# Altium integrated library Xilinx Spartan-6L.IntLib: 84 symbols (part 1 of 21)
Pins are listed as number, name and electrical type; pins without a type are passive.

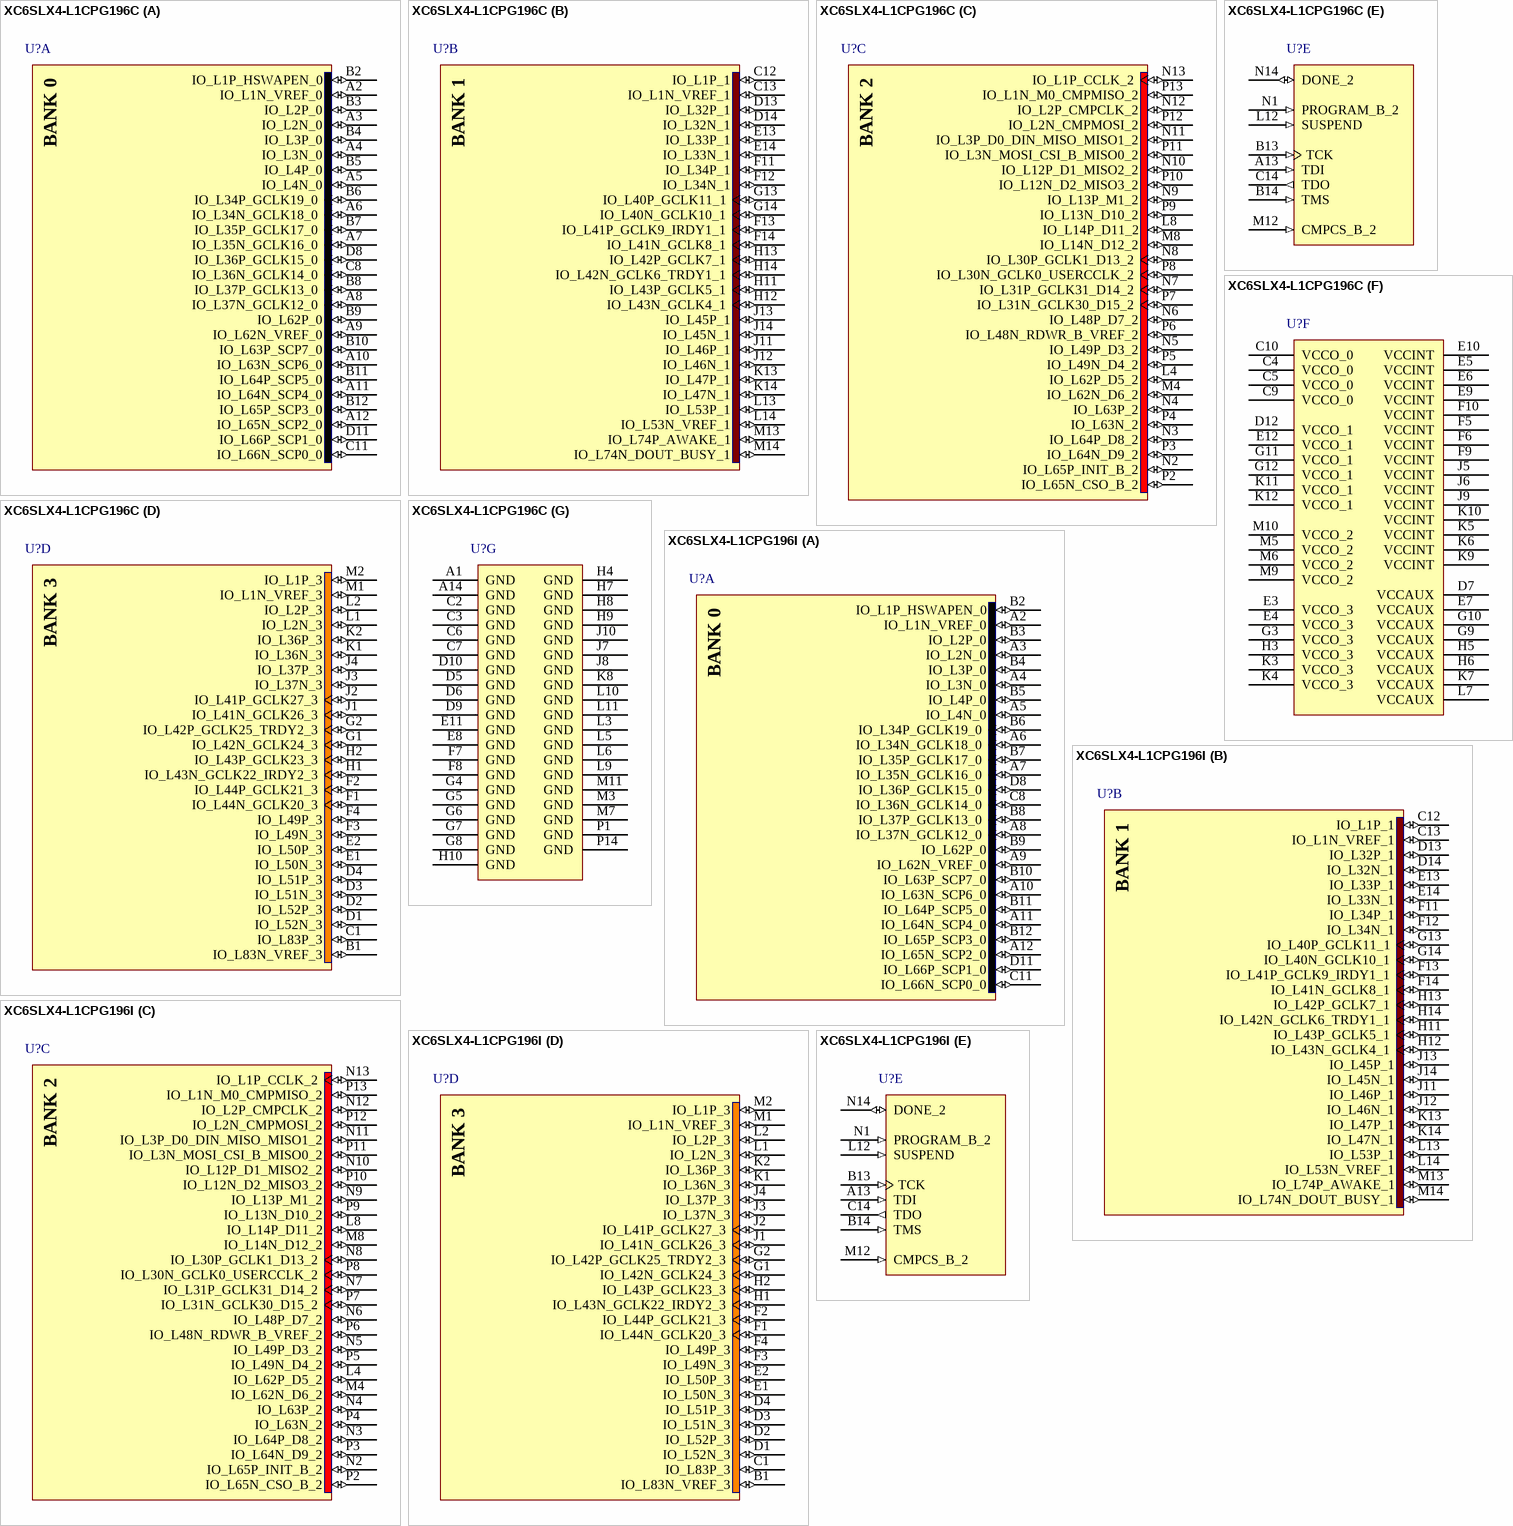
[diagram p0: symbols XC6SLX4-L1CPG196C to XC6SLX4-L1CPG196I]

## XC6SLX4-L1CPG196C
designator U?
Spartan-6 LX 1.0V FPGA, 106 User I/Os, 196-Ball Chip-Scale BGA (0.5mm Pitch), Low Power Version, Commercial Grade, Pb-Free; Published: 1-Jul-2010; DatasheetVersion: ver1.6, Nov-2010; PackageVersion: ver1.0, Dec-2009; PackageReference: CPG196; Publisher: Altium Limited; PackageDescription: 196-Ball Chip Scale Ball Grid Array 0.5 mm Pitch (CPG196) - Pb-Free; Code_JEDEC: MO-275; ComponentLink1Description: Manufacturer Link; ComponentLink1URL: http://www.xilinx.com; ComponentLink2Description: Spartan-6 Datasheet; ComponentLink2URL: http://www.xilinx.com/support/documentation/data_sheets/ds160.pdf; ComponentLink3Description: Spartan-6 Documents; ComponentLink3URL: http://www.xilinx.com/support/documentation/spartan-6.htm; ComponentLink4Description: Xilinx.com Home; ComponentLink4URL: http://www.xilinx.com
footprint CPG196 (BGA, 196-Leads, Body 8x8mm, Pitch 0.5mm)
signal-integrity model XC6SLX4_CPG196 (Spartan-6)
part A pins: A2 IO_L1N_VREF_0 (io), A3 IO_L2N_0 (io), A4 IO_L3N_0 (io), A5 IO_L4N_0 (io), A6 IO_L34N_GCLK18_0 (io), A7 IO_L35N_GCLK16_0 (io), A8 IO_L37N_GCLK12_0 (io), A9 IO_L62N_VREF_0 (io), A10 IO_L63N_SCP6_0 (io), A11 IO_L64N_SCP4_0 (io), A12 IO_L65N_SCP2_0 (io), B2 IO_L1P_HSWAPEN_0 (io), B3 IO_L2P_0 (io), B4 IO_L3P_0 (io), B5 IO_L4P_0 (io), B6 IO_L34P_GCLK19_0 (io), B7 IO_L35P_GCLK17_0 (io), B8 IO_L37P_GCLK13_0 (io), B9 IO_L62P_0 (io), B10 IO_L63P_SCP7_0 (io), B11 IO_L64P_SCP5_0 (io), B12 IO_L65P_SCP3_0 (io), C8 IO_L36N_GCLK14_0 (io), C11 IO_L66N_SCP0_0 (io), D8 IO_L36P_GCLK15_0 (io), D11 IO_L66P_SCP1_0 (io)
part B pins: C12 IO_L1P_1 (io), C13 IO_L1N_VREF_1 (io), D13 IO_L32P_1 (io), D14 IO_L32N_1 (io), E13 IO_L33P_1 (io), E14 IO_L33N_1 (io), F11 IO_L34P_1 (io), F12 IO_L34N_1 (io), F13 IO_L41P_GCLK9_IRDY1_1 (io), F14 IO_L41N_GCLK8_1 (io), G13 IO_L40P_GCLK11_1 (io), G14 IO_L40N_GCLK10_1 (io), H11 IO_L43P_GCLK5_1 (io), H12 IO_L43N_GCLK4_1 (io), H13 IO_L42P_GCLK7_1 (io), H14 IO_L42N_GCLK6_TRDY1_1 (io), J11 IO_L46P_1 (io), J12 IO_L46N_1 (io), J13 IO_L45P_1 (io), J14 IO_L45N_1 (io), K13 IO_L47P_1 (io), K14 IO_L47N_1 (io), L13 IO_L53P_1 (io), L14 IO_L53N_VREF_1 (io), M13 IO_L74P_AWAKE_1 (io), M14 IO_L74N_DOUT_BUSY_1 (io)
part C pins: L4 IO_L62P_D5_2 (io), L8 IO_L14P_D11_2 (io), M4 IO_L62N_D6_2 (io), M8 IO_L14N_D12_2 (io), N2 IO_L65P_INIT_B_2 (io), N3 IO_L64P_D8_2 (io), N4 IO_L63P_2 (io), N5 IO_L49P_D3_2 (io), N6 IO_L48P_D7_2 (io), N7 IO_L31P_GCLK31_D14_2 (io), N8 IO_L30P_GCLK1_D13_2 (io), N9 IO_L13P_M1_2 (io), N10 IO_L12P_D1_MISO2_2 (io), N11 IO_L3P_D0_DIN_MISO_MISO1_2 (io), N12 IO_L2P_CMPCLK_2 (io), N13 IO_L1P_CCLK_2 (io), P2 IO_L65N_CSO_B_2 (io), P3 IO_L64N_D9_2 (io), P4 IO_L63N_2 (io), P5 IO_L49N_D4_2 (io), P6 IO_L48N_RDWR_B_VREF_2 (io), P7 IO_L31N_GCLK30_D15_2 (io), P8 IO_L30N_GCLK0_USERCCLK_2 (io), P9 IO_L13N_D10_2 (io), P10 IO_L12N_D2_MISO3_2 (io), P11 IO_L3N_MOSI_CSI_B_MISO0_2 (io), P12 IO_L2N_CMPMOSI_2 (io), P13 IO_L1N_M0_CMPMISO_2 (io)
part D pins: B1 IO_L83N_VREF_3 (io), C1 IO_L83P_3 (io), D1 IO_L52N_3 (io), D2 IO_L52P_3 (io), D3 IO_L51N_3 (io), D4 IO_L51P_3 (io), E1 IO_L50N_3 (io), E2 IO_L50P_3 (io), F1 IO_L44N_GCLK20_3 (io), F2 IO_L44P_GCLK21_3 (io), F3 IO_L49N_3 (io), F4 IO_L49P_3 (io), G1 IO_L42N_GCLK24_3 (io), G2 IO_L42P_GCLK25_TRDY2_3 (io), H1 IO_L43N_GCLK22_IRDY2_3 (io), H2 IO_L43P_GCLK23_3 (io), J1 IO_L41N_GCLK26_3 (io), J2 IO_L41P_GCLK27_3 (io), J3 IO_L37N_3 (io), J4 IO_L37P_3 (io), K1 IO_L36N_3 (io), K2 IO_L36P_3 (io), L1 IO_L2N_3 (io), L2 IO_L2P_3 (io), M1 IO_L1N_VREF_3 (io), M2 IO_L1P_3 (io)
part E pins: A13 TDI (in), B13 TCK (in), B14 TMS (in), C14 TDO (out), L12 SUSPEND (in), M12 CMPCS_B_2 (in), N1 PROGRAM_B_2 (in), N14 DONE_2 (io)
part F pins: C4 VCCO_0 (power), C5 VCCO_0 (power), C9 VCCO_0 (power), C10 VCCO_0 (power), D7 VCCAUX (power), D12 VCCO_1 (power), E3 VCCO_3 (power), E4 VCCO_3 (power), E5 VCCINT (power), E6 VCCINT (power), E7 VCCAUX (power), E9 VCCINT (power), E10 VCCINT (power), E12 VCCO_1 (power), F5 VCCINT (power), F6 VCCINT (power), F9 VCCINT (power), F10 VCCINT (power), G3 VCCO_3 (power), G9 VCCAUX (power), G10 VCCAUX (power), G11 VCCO_1 (power), G12 VCCO_1 (power), H3 VCCO_3 (power), H5 VCCAUX (power), H6 VCCAUX (power), J5 VCCINT (power), J6 VCCINT (power), J9 VCCINT (power), K3 VCCO_3 (power), K4 VCCO_3 (power), K5 VCCINT (power), K6 VCCINT (power), K7 VCCAUX (power), K9 VCCINT (power), K10 VCCINT (power), K11 VCCO_1 (power), K12 VCCO_1 (power), L7 VCCAUX (power), M5 VCCO_2 (power), M6 VCCO_2 (power), M9 VCCO_2 (power), M10 VCCO_2 (power)
part G pins: A1 GND (power), A14 GND (power), C2 GND (power), C3 GND (power), C6 GND (power), C7 GND (power), D5 GND (power), D6 GND (power), D9 GND (power), D10 GND (power), E8 GND (power), E11 GND (power), F7 GND (power), F8 GND (power), G4 GND (power), G5 GND (power), G6 GND (power), G7 GND (power), G8 GND (power), H4 GND (power), H7 GND (power), H8 GND (power), H9 GND (power), H10 GND (power), J7 GND (power), J8 GND (power), J10 GND (power), K8 GND (power), L3 GND (power), L5 GND (power), L6 GND (power), L9 GND (power), L10 GND (power), L11 GND (power), M3 GND (power), M7 GND (power), M11 GND (power), P1 GND (power), P14 GND (power)
part A text: BANK 0
part B text: BANK 1
part C text: BANK 2
part D text: BANK 3

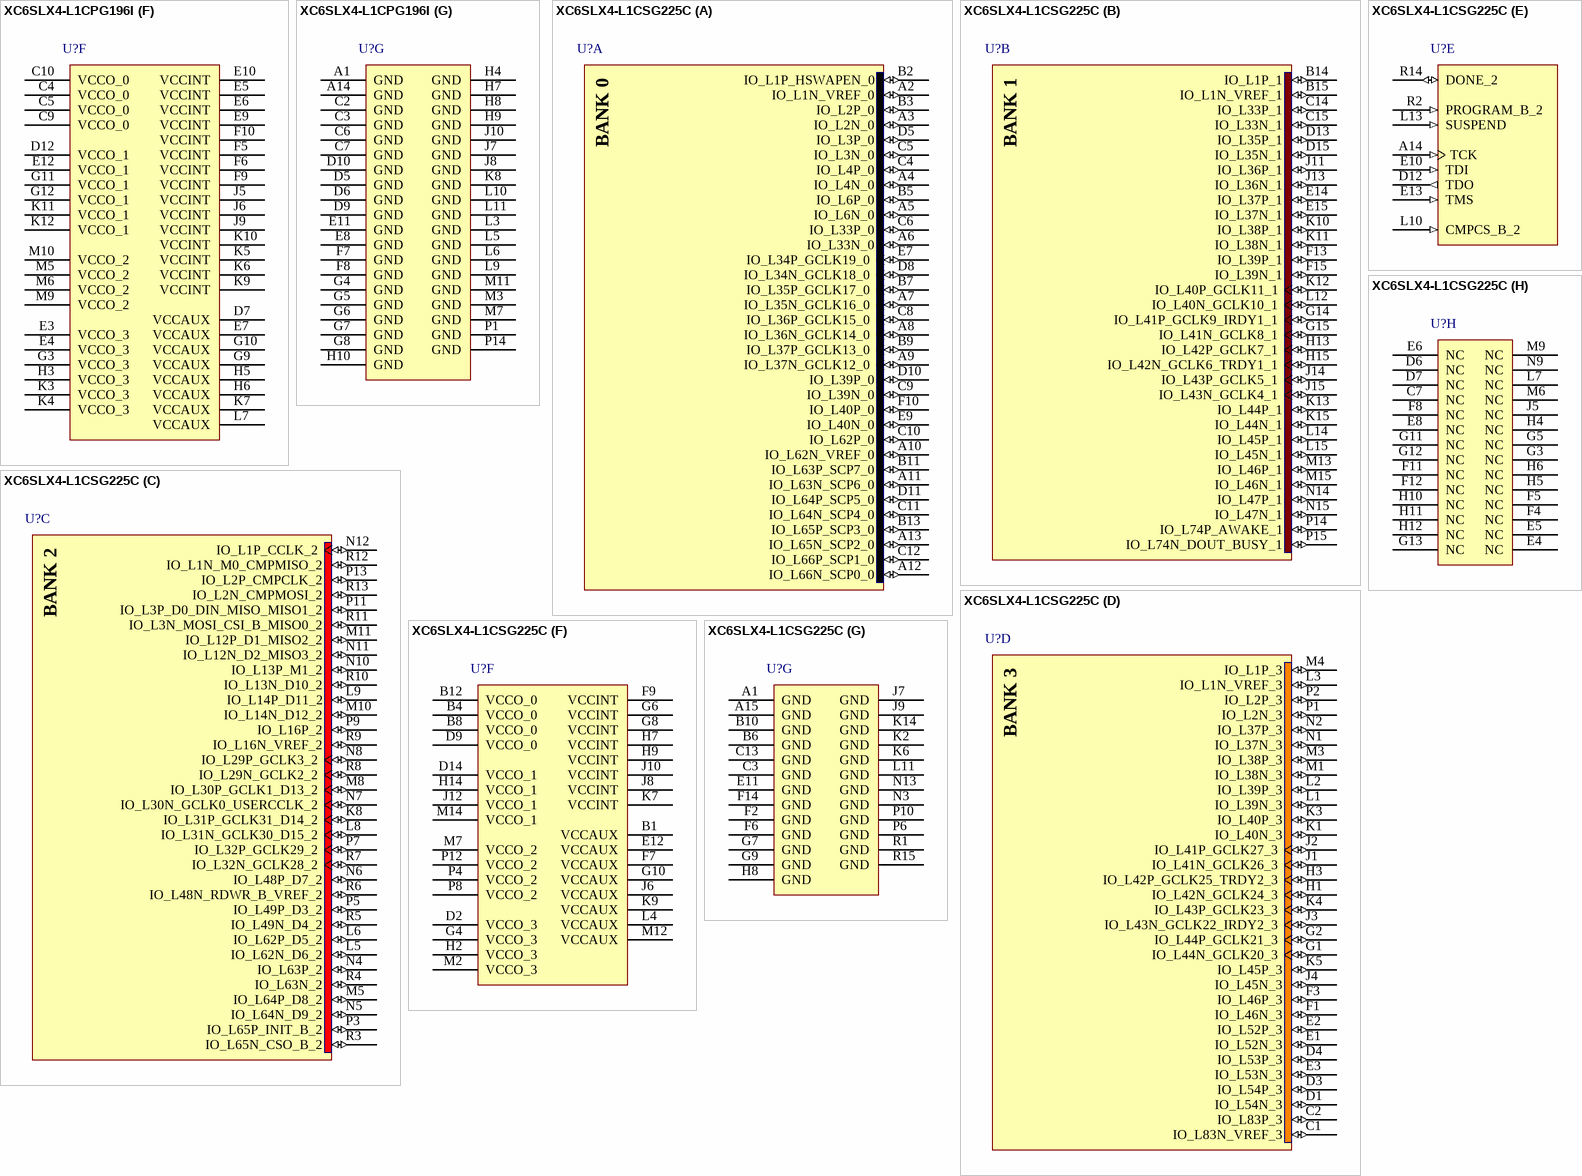
[diagram p1: symbols XC6SLX4-L1CPG196I to XC6SLX4-L1CSG225C]

## XC6SLX4-L1CPG196I
designator U?
Spartan-6 LX 1.0V FPGA, 106 User I/Os, 196-Ball Chip-Scale BGA (0.5mm Pitch), Low Power Version, Industrial Grade, Pb-Free; Published: 1-Jul-2010; DatasheetVersion: ver1.6, Nov-2010; PackageVersion: ver1.0, Dec-2009; PackageReference: CPG196; Publisher: Altium Limited; PackageDescription: 196-Ball Chip Scale Ball Grid Array 0.5 mm Pitch (CPG196) - Pb-Free; Code_JEDEC: MO-275; ComponentLink1Description: Manufacturer Link; ComponentLink1URL: http://www.xilinx.com; ComponentLink2Description: Spartan-6 Datasheet; ComponentLink2URL: http://www.xilinx.com/support/documentation/data_sheets/ds160.pdf; ComponentLink3Description: Spartan-6 Documents; ComponentLink3URL: http://www.xilinx.com/support/documentation/spartan-6.htm; ComponentLink4Description: Xilinx.com Home; ComponentLink4URL: http://www.xilinx.com
footprint CPG196 (BGA, 196-Leads, Body 8x8mm, Pitch 0.5mm)
signal-integrity model XC6SLX4_CPG196 (Spartan-6)
part A pins: A2 IO_L1N_VREF_0 (io), A3 IO_L2N_0 (io), A4 IO_L3N_0 (io), A5 IO_L4N_0 (io), A6 IO_L34N_GCLK18_0 (io), A7 IO_L35N_GCLK16_0 (io), A8 IO_L37N_GCLK12_0 (io), A9 IO_L62N_VREF_0 (io), A10 IO_L63N_SCP6_0 (io), A11 IO_L64N_SCP4_0 (io), A12 IO_L65N_SCP2_0 (io), B2 IO_L1P_HSWAPEN_0 (io), B3 IO_L2P_0 (io), B4 IO_L3P_0 (io), B5 IO_L4P_0 (io), B6 IO_L34P_GCLK19_0 (io), B7 IO_L35P_GCLK17_0 (io), B8 IO_L37P_GCLK13_0 (io), B9 IO_L62P_0 (io), B10 IO_L63P_SCP7_0 (io), B11 IO_L64P_SCP5_0 (io), B12 IO_L65P_SCP3_0 (io), C8 IO_L36N_GCLK14_0 (io), C11 IO_L66N_SCP0_0 (io), D8 IO_L36P_GCLK15_0 (io), D11 IO_L66P_SCP1_0 (io)
part B pins: C12 IO_L1P_1 (io), C13 IO_L1N_VREF_1 (io), D13 IO_L32P_1 (io), D14 IO_L32N_1 (io), E13 IO_L33P_1 (io), E14 IO_L33N_1 (io), F11 IO_L34P_1 (io), F12 IO_L34N_1 (io), F13 IO_L41P_GCLK9_IRDY1_1 (io), F14 IO_L41N_GCLK8_1 (io), G13 IO_L40P_GCLK11_1 (io), G14 IO_L40N_GCLK10_1 (io), H11 IO_L43P_GCLK5_1 (io), H12 IO_L43N_GCLK4_1 (io), H13 IO_L42P_GCLK7_1 (io), H14 IO_L42N_GCLK6_TRDY1_1 (io), J11 IO_L46P_1 (io), J12 IO_L46N_1 (io), J13 IO_L45P_1 (io), J14 IO_L45N_1 (io), K13 IO_L47P_1 (io), K14 IO_L47N_1 (io), L13 IO_L53P_1 (io), L14 IO_L53N_VREF_1 (io), M13 IO_L74P_AWAKE_1 (io), M14 IO_L74N_DOUT_BUSY_1 (io)
part C pins: L4 IO_L62P_D5_2 (io), L8 IO_L14P_D11_2 (io), M4 IO_L62N_D6_2 (io), M8 IO_L14N_D12_2 (io), N2 IO_L65P_INIT_B_2 (io), N3 IO_L64P_D8_2 (io), N4 IO_L63P_2 (io), N5 IO_L49P_D3_2 (io), N6 IO_L48P_D7_2 (io), N7 IO_L31P_GCLK31_D14_2 (io), N8 IO_L30P_GCLK1_D13_2 (io), N9 IO_L13P_M1_2 (io), N10 IO_L12P_D1_MISO2_2 (io), N11 IO_L3P_D0_DIN_MISO_MISO1_2 (io), N12 IO_L2P_CMPCLK_2 (io), N13 IO_L1P_CCLK_2 (io), P2 IO_L65N_CSO_B_2 (io), P3 IO_L64N_D9_2 (io), P4 IO_L63N_2 (io), P5 IO_L49N_D4_2 (io), P6 IO_L48N_RDWR_B_VREF_2 (io), P7 IO_L31N_GCLK30_D15_2 (io), P8 IO_L30N_GCLK0_USERCCLK_2 (io), P9 IO_L13N_D10_2 (io), P10 IO_L12N_D2_MISO3_2 (io), P11 IO_L3N_MOSI_CSI_B_MISO0_2 (io), P12 IO_L2N_CMPMOSI_2 (io), P13 IO_L1N_M0_CMPMISO_2 (io)
part D pins: B1 IO_L83N_VREF_3 (io), C1 IO_L83P_3 (io), D1 IO_L52N_3 (io), D2 IO_L52P_3 (io), D3 IO_L51N_3 (io), D4 IO_L51P_3 (io), E1 IO_L50N_3 (io), E2 IO_L50P_3 (io), F1 IO_L44N_GCLK20_3 (io), F2 IO_L44P_GCLK21_3 (io), F3 IO_L49N_3 (io), F4 IO_L49P_3 (io), G1 IO_L42N_GCLK24_3 (io), G2 IO_L42P_GCLK25_TRDY2_3 (io), H1 IO_L43N_GCLK22_IRDY2_3 (io), H2 IO_L43P_GCLK23_3 (io), J1 IO_L41N_GCLK26_3 (io), J2 IO_L41P_GCLK27_3 (io), J3 IO_L37N_3 (io), J4 IO_L37P_3 (io), K1 IO_L36N_3 (io), K2 IO_L36P_3 (io), L1 IO_L2N_3 (io), L2 IO_L2P_3 (io), M1 IO_L1N_VREF_3 (io), M2 IO_L1P_3 (io)
part E pins: A13 TDI (in), B13 TCK (in), B14 TMS (in), C14 TDO (out), L12 SUSPEND (in), M12 CMPCS_B_2 (in), N1 PROGRAM_B_2 (in), N14 DONE_2 (io)
part F pins: C4 VCCO_0 (power), C5 VCCO_0 (power), C9 VCCO_0 (power), C10 VCCO_0 (power), D7 VCCAUX (power), D12 VCCO_1 (power), E3 VCCO_3 (power), E4 VCCO_3 (power), E5 VCCINT (power), E6 VCCINT (power), E7 VCCAUX (power), E9 VCCINT (power), E10 VCCINT (power), E12 VCCO_1 (power), F5 VCCINT (power), F6 VCCINT (power), F9 VCCINT (power), F10 VCCINT (power), G3 VCCO_3 (power), G9 VCCAUX (power), G10 VCCAUX (power), G11 VCCO_1 (power), G12 VCCO_1 (power), H3 VCCO_3 (power), H5 VCCAUX (power), H6 VCCAUX (power), J5 VCCINT (power), J6 VCCINT (power), J9 VCCINT (power), K3 VCCO_3 (power), K4 VCCO_3 (power), K5 VCCINT (power), K6 VCCINT (power), K7 VCCAUX (power), K9 VCCINT (power), K10 VCCINT (power), K11 VCCO_1 (power), K12 VCCO_1 (power), L7 VCCAUX (power), M5 VCCO_2 (power), M6 VCCO_2 (power), M9 VCCO_2 (power), M10 VCCO_2 (power)
part G pins: A1 GND (power), A14 GND (power), C2 GND (power), C3 GND (power), C6 GND (power), C7 GND (power), D5 GND (power), D6 GND (power), D9 GND (power), D10 GND (power), E8 GND (power), E11 GND (power), F7 GND (power), F8 GND (power), G4 GND (power), G5 GND (power), G6 GND (power), G7 GND (power), G8 GND (power), H4 GND (power), H7 GND (power), H8 GND (power), H9 GND (power), H10 GND (power), J7 GND (power), J8 GND (power), J10 GND (power), K8 GND (power), L3 GND (power), L5 GND (power), L6 GND (power), L9 GND (power), L10 GND (power), L11 GND (power), M3 GND (power), M7 GND (power), M11 GND (power), P1 GND (power), P14 GND (power)
part A text: BANK 0
part B text: BANK 1
part C text: BANK 2
part D text: BANK 3

## XC6SLX4-L1CSG225C
designator U?
Spartan-6 LX 1.0V FPGA, 132 User I/Os, 225-Ball Chip-Scale BGA (0.8mm Pitch), Low Power Version, Commercial Grade, Pb-Free; Published: 1-Jul-2010; DatasheetVersion: ver1.6, Nov-2010; PackageVersion: ver1.1, Nov-2009; PackageReference: CSG225; Publisher: Altium Limited; PackageDescription: 225-Ball Chip-Scale BGA (CSG225) Package, 0.8 mm Pitch; Code_JEDEC: MO-275-HHAC-1; ComponentLink1Description: Manufacturer Link; ComponentLink1URL: http://www.xilinx.com; ComponentLink2Description: Spartan-6 Datasheet; ComponentLink2URL: http://www.xilinx.com/support/documentation/data_sheets/ds160.pdf; ComponentLink3Description: Spartan-6 Documents; ComponentLink3URL: http://www.xilinx.com/support/documentation/spartan-6.htm; ComponentLink4Description: Xilinx.com Home; ComponentLink4URL: http://www.xilinx.com
footprint CSG225 (BGA, 225-Leads, Body 13x13mm, Pitch 0.8mm)
signal-integrity model XC6SLX4_CSG225 (Spartan-6)
part A pins: A2 IO_L1N_VREF_0 (io), A3 IO_L2N_0 (io), A4 IO_L4N_0 (io), A5 IO_L6N_0 (io), A6 IO_L33N_0 (io), A7 IO_L35N_GCLK16_0 (io), A8 IO_L36N_GCLK14_0 (io), A9 IO_L37N_GCLK12_0 (io), A10 IO_L62N_VREF_0 (io), A11 IO_L63N_SCP6_0 (io), A12 IO_L66N_SCP0_0 (io), A13 IO_L65N_SCP2_0 (io), B2 IO_L1P_HSWAPEN_0 (io), B3 IO_L2P_0 (io), B5 IO_L6P_0 (io), B7 IO_L35P_GCLK17_0 (io), B9 IO_L37P_GCLK13_0 (io), B11 IO_L63P_SCP7_0 (io), B13 IO_L65P_SCP3_0 (io), C4 IO_L4P_0 (io), C5 IO_L3N_0 (io), C6 IO_L33P_0 (io), C8 IO_L36P_GCLK15_0 (io), C9 IO_L39N_0 (io), C10 IO_L62P_0 (io), C11 IO_L64N_SCP4_0 (io), C12 IO_L66P_SCP1_0 (io), D5 IO_L3P_0 (io), D8 IO_L34N_GCLK18_0 (io), D10 IO_L39P_0 (io), D11 IO_L64P_SCP5_0 (io), E7 IO_L34P_GCLK19_0 (io), E9 IO_L40N_0 (io), F10 IO_L40P_0 (io)
part B pins: B14 IO_L1P_1 (io), B15 IO_L1N_VREF_1 (io), C14 IO_L33P_1 (io), C15 IO_L33N_1 (io), D13 IO_L35P_1 (io), D15 IO_L35N_1 (io), E14 IO_L37P_1 (io), E15 IO_L37N_1 (io), F13 IO_L39P_1 (io), F15 IO_L39N_1 (io), G14 IO_L41P_GCLK9_IRDY1_1 (io), G15 IO_L41N_GCLK8_1 (io), H13 IO_L42P_GCLK7_1 (io), H15 IO_L42N_GCLK6_TRDY1_1 (io), J11 IO_L36P_1 (io), J13 IO_L36N_1 (io), J14 IO_L43P_GCLK5_1 (io), J15 IO_L43N_GCLK4_1 (io), K10 IO_L38P_1 (io), K11 IO_L38N_1 (io), K12 IO_L40P_GCLK11_1 (io), K13 IO_L44P_1 (io), K15 IO_L44N_1 (io), L12 IO_L40N_GCLK10_1 (io), L14 IO_L45P_1 (io), L15 IO_L45N_1 (io), M13 IO_L46P_1 (io), M15 IO_L46N_1 (io), N14 IO_L47P_1 (io), N15 IO_L47N_1 (io), P14 IO_L74P_AWAKE_1 (io), P15 IO_L74N_DOUT_BUSY_1 (io)
part C pins: K8 IO_L31P_GCLK31_D14_2 (io), L5 IO_L62N_D6_2 (io), L6 IO_L62P_D5_2 (io), L8 IO_L31N_GCLK30_D15_2 (io), L9 IO_L14P_D11_2 (io), M5 IO_L64P_D8_2 (io), M8 IO_L30P_GCLK1_D13_2 (io), M10 IO_L14N_D12_2 (io), M11 IO_L12P_D1_MISO2_2 (io), N4 IO_L63P_2 (io), N5 IO_L64N_D9_2 (io), N6 IO_L48P_D7_2 (io), N7 IO_L30N_GCLK0_USERCCLK_2 (io), N8 IO_L29P_GCLK3_2 (io), N10 IO_L13P_M1_2 (io), N11 IO_L12N_D2_MISO3_2 (io), N12 IO_L1P_CCLK_2 (io), P3 IO_L65P_INIT_B_2 (io), P5 IO_L49P_D3_2 (io), P7 IO_L32P_GCLK29_2 (io), P9 IO_L16P_2 (io), P11 IO_L3P_D0_DIN_MISO_MISO1_2 (io), P13 IO_L2P_CMPCLK_2 (io), R3 IO_L65N_CSO_B_2 (io), R4 IO_L63N_2 (io), R5 IO_L49N_D4_2 (io), R6 IO_L48N_RDWR_B_VREF_2 (io), R7 IO_L32N_GCLK28_2 (io), R8 IO_L29N_GCLK2_2 (io), R9 IO_L16N_VREF_2 (io), R10 IO_L13N_D10_2 (io), R11 IO_L3N_MOSI_CSI_B_MISO0_2 (io), R12 IO_L1N_M0_CMPMISO_2 (io), R13 IO_L2N_CMPMOSI_2 (io)
part D pins: C1 IO_L83N_VREF_3 (io), C2 IO_L83P_3 (io), D1 IO_L54N_3 (io), D3 IO_L54P_3 (io), D4 IO_L53P_3 (io), E1 IO_L52N_3 (io), E2 IO_L52P_3 (io), E3 IO_L53N_3 (io), F1 IO_L46N_3 (io), F3 IO_L46P_3 (io), G1 IO_L44N_GCLK20_3 (io), G2 IO_L44P_GCLK21_3 (io), H1 IO_L42N_GCLK24_3 (io), H3 IO_L42P_GCLK25_TRDY2_3 (io), J1 IO_L41N_GCLK26_3 (io), J2 IO_L41P_GCLK27_3 (io), J3 IO_L43N_GCLK22_IRDY2_3 (io), J4 IO_L45N_3 (io), K1 IO_L40N_3 (io), K3 IO_L40P_3 (io), K4 IO_L43P_GCLK23_3 (io), K5 IO_L45P_3 (io), L1 IO_L39N_3 (io), L2 IO_L39P_3 (io), L3 IO_L1N_VREF_3 (io), M1 IO_L38N_3 (io), M3 IO_L38P_3 (io), M4 IO_L1P_3 (io), N1 IO_L37N_3 (io), N2 IO_L37P_3 (io), P1 IO_L2N_3 (io), P2 IO_L2P_3 (io)
part E pins: A14 TCK (in), D12 TDO (out), E10 TDI (in), E13 TMS (in), L10 CMPCS_B_2 (in), L13 SUSPEND (in), R2 PROGRAM_B_2 (in), R14 DONE_2 (io)
part F pins: B1 VCCAUX (power), B4 VCCO_0 (power), B8 VCCO_0 (power), B12 VCCO_0 (power), D2 VCCO_3 (power), D9 VCCO_0 (power), D14 VCCO_1 (power), E12 VCCAUX (power), F7 VCCAUX (power), F9 VCCINT (power), G4 VCCO_3 (power), G6 VCCINT (power), G8 VCCINT (power), G10 VCCAUX (power), H2 VCCO_3 (power), H7 VCCINT (power), H9 VCCINT (power), H14 VCCO_1 (power), J6 VCCAUX (power), J8 VCCINT (power), J10 VCCINT (power), J12 VCCO_1 (power), K7 VCCINT (power), K9 VCCAUX (power), L4 VCCAUX (power), M2 VCCO_3 (power), M7 VCCO_2 (power), M12 VCCAUX (power), M14 VCCO_1 (power), P4 VCCO_2 (power), P8 VCCO_2 (power), P12 VCCO_2 (power)
part G pins: A1 GND (power), A15 GND (power), B6 GND (power), B10 GND (power), C3 GND (power), C13 GND (power), E11 GND (power), F2 GND (power), F6 GND (power), F14 GND (power), G7 GND (power), G9 GND (power), H8 GND (power), J7 GND (power), J9 GND (power), K2 GND (power), K6 GND (power), K14 GND (power), L11 GND (power), N3 GND (power), N13 GND (power), P6 GND (power), P10 GND (power), R1 GND (power), R15 GND (power)
part H pins: C7 NC, D6 NC, D7 NC, E4 NC, E5 NC, E6 NC, E8 NC, F4 NC, F5 NC, F8 NC, F11 NC, F12 NC, G3 NC, G5 NC, G11 NC, G12 NC, G13 NC, H4 NC, H5 NC, H6 NC, H10 NC, H11 NC, H12 NC, J5 NC, L7 NC, M6 NC, M9 NC, N9 NC
part A text: BANK 0
part B text: BANK 1
part C text: BANK 2
part D text: BANK 3

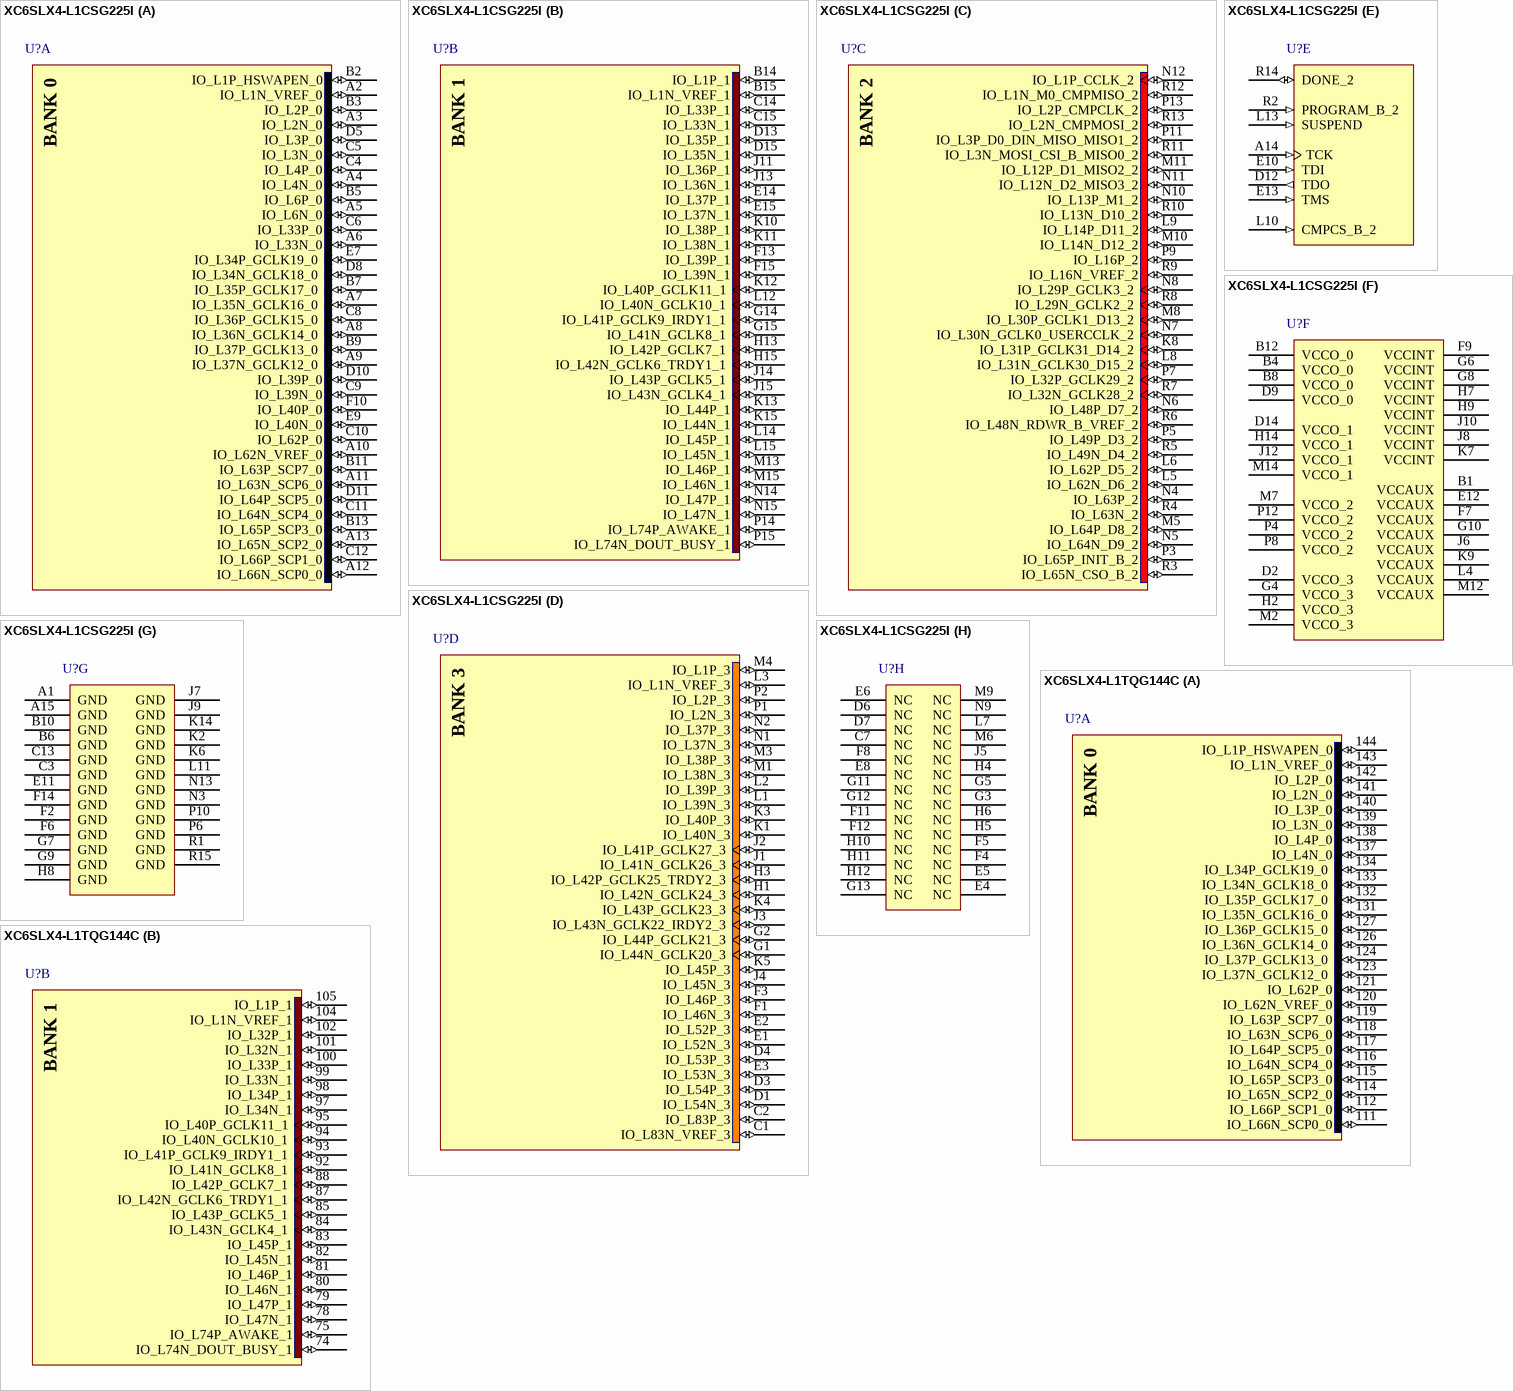
[diagram p2: symbols XC6SLX4-L1CSG225I to XC6SLX4-L1TQG144C]

## XC6SLX4-L1CSG225I
designator U?
Spartan-6 LX 1.0V FPGA, 132 User I/Os, 225-Ball Chip-Scale BGA (0.8mm Pitch), Low Power Version, Industrial Grade, Pb-Free; Published: 1-Jul-2010; DatasheetVersion: ver1.6, Nov-2010; PackageVersion: ver1.1, Nov-2009; PackageReference: CSG225; Publisher: Altium Limited; PackageDescription: 225-Ball Chip-Scale BGA (CSG225) Package, 0.8 mm Pitch; Code_JEDEC: MO-275-HHAC-1; ComponentLink1Description: Manufacturer Link; ComponentLink1URL: http://www.xilinx.com; ComponentLink2Description: Spartan-6 Datasheet; ComponentLink2URL: http://www.xilinx.com/support/documentation/data_sheets/ds160.pdf; ComponentLink3Description: Spartan-6 Documents; ComponentLink3URL: http://www.xilinx.com/support/documentation/spartan-6.htm; ComponentLink4Description: Xilinx.com Home; ComponentLink4URL: http://www.xilinx.com
footprint CSG225 (BGA, 225-Leads, Body 13x13mm, Pitch 0.8mm)
signal-integrity model XC6SLX4_CSG225 (Spartan-6)
part A pins: A2 IO_L1N_VREF_0 (io), A3 IO_L2N_0 (io), A4 IO_L4N_0 (io), A5 IO_L6N_0 (io), A6 IO_L33N_0 (io), A7 IO_L35N_GCLK16_0 (io), A8 IO_L36N_GCLK14_0 (io), A9 IO_L37N_GCLK12_0 (io), A10 IO_L62N_VREF_0 (io), A11 IO_L63N_SCP6_0 (io), A12 IO_L66N_SCP0_0 (io), A13 IO_L65N_SCP2_0 (io), B2 IO_L1P_HSWAPEN_0 (io), B3 IO_L2P_0 (io), B5 IO_L6P_0 (io), B7 IO_L35P_GCLK17_0 (io), B9 IO_L37P_GCLK13_0 (io), B11 IO_L63P_SCP7_0 (io), B13 IO_L65P_SCP3_0 (io), C4 IO_L4P_0 (io), C5 IO_L3N_0 (io), C6 IO_L33P_0 (io), C8 IO_L36P_GCLK15_0 (io), C9 IO_L39N_0 (io), C10 IO_L62P_0 (io), C11 IO_L64N_SCP4_0 (io), C12 IO_L66P_SCP1_0 (io), D5 IO_L3P_0 (io), D8 IO_L34N_GCLK18_0 (io), D10 IO_L39P_0 (io), D11 IO_L64P_SCP5_0 (io), E7 IO_L34P_GCLK19_0 (io), E9 IO_L40N_0 (io), F10 IO_L40P_0 (io)
part B pins: B14 IO_L1P_1 (io), B15 IO_L1N_VREF_1 (io), C14 IO_L33P_1 (io), C15 IO_L33N_1 (io), D13 IO_L35P_1 (io), D15 IO_L35N_1 (io), E14 IO_L37P_1 (io), E15 IO_L37N_1 (io), F13 IO_L39P_1 (io), F15 IO_L39N_1 (io), G14 IO_L41P_GCLK9_IRDY1_1 (io), G15 IO_L41N_GCLK8_1 (io), H13 IO_L42P_GCLK7_1 (io), H15 IO_L42N_GCLK6_TRDY1_1 (io), J11 IO_L36P_1 (io), J13 IO_L36N_1 (io), J14 IO_L43P_GCLK5_1 (io), J15 IO_L43N_GCLK4_1 (io), K10 IO_L38P_1 (io), K11 IO_L38N_1 (io), K12 IO_L40P_GCLK11_1 (io), K13 IO_L44P_1 (io), K15 IO_L44N_1 (io), L12 IO_L40N_GCLK10_1 (io), L14 IO_L45P_1 (io), L15 IO_L45N_1 (io), M13 IO_L46P_1 (io), M15 IO_L46N_1 (io), N14 IO_L47P_1 (io), N15 IO_L47N_1 (io), P14 IO_L74P_AWAKE_1 (io), P15 IO_L74N_DOUT_BUSY_1 (io)
part C pins: K8 IO_L31P_GCLK31_D14_2 (io), L5 IO_L62N_D6_2 (io), L6 IO_L62P_D5_2 (io), L8 IO_L31N_GCLK30_D15_2 (io), L9 IO_L14P_D11_2 (io), M5 IO_L64P_D8_2 (io), M8 IO_L30P_GCLK1_D13_2 (io), M10 IO_L14N_D12_2 (io), M11 IO_L12P_D1_MISO2_2 (io), N4 IO_L63P_2 (io), N5 IO_L64N_D9_2 (io), N6 IO_L48P_D7_2 (io), N7 IO_L30N_GCLK0_USERCCLK_2 (io), N8 IO_L29P_GCLK3_2 (io), N10 IO_L13P_M1_2 (io), N11 IO_L12N_D2_MISO3_2 (io), N12 IO_L1P_CCLK_2 (io), P3 IO_L65P_INIT_B_2 (io), P5 IO_L49P_D3_2 (io), P7 IO_L32P_GCLK29_2 (io), P9 IO_L16P_2 (io), P11 IO_L3P_D0_DIN_MISO_MISO1_2 (io), P13 IO_L2P_CMPCLK_2 (io), R3 IO_L65N_CSO_B_2 (io), R4 IO_L63N_2 (io), R5 IO_L49N_D4_2 (io), R6 IO_L48N_RDWR_B_VREF_2 (io), R7 IO_L32N_GCLK28_2 (io), R8 IO_L29N_GCLK2_2 (io), R9 IO_L16N_VREF_2 (io), R10 IO_L13N_D10_2 (io), R11 IO_L3N_MOSI_CSI_B_MISO0_2 (io), R12 IO_L1N_M0_CMPMISO_2 (io), R13 IO_L2N_CMPMOSI_2 (io)
part D pins: C1 IO_L83N_VREF_3 (io), C2 IO_L83P_3 (io), D1 IO_L54N_3 (io), D3 IO_L54P_3 (io), D4 IO_L53P_3 (io), E1 IO_L52N_3 (io), E2 IO_L52P_3 (io), E3 IO_L53N_3 (io), F1 IO_L46N_3 (io), F3 IO_L46P_3 (io), G1 IO_L44N_GCLK20_3 (io), G2 IO_L44P_GCLK21_3 (io), H1 IO_L42N_GCLK24_3 (io), H3 IO_L42P_GCLK25_TRDY2_3 (io), J1 IO_L41N_GCLK26_3 (io), J2 IO_L41P_GCLK27_3 (io), J3 IO_L43N_GCLK22_IRDY2_3 (io), J4 IO_L45N_3 (io), K1 IO_L40N_3 (io), K3 IO_L40P_3 (io), K4 IO_L43P_GCLK23_3 (io), K5 IO_L45P_3 (io), L1 IO_L39N_3 (io), L2 IO_L39P_3 (io), L3 IO_L1N_VREF_3 (io), M1 IO_L38N_3 (io), M3 IO_L38P_3 (io), M4 IO_L1P_3 (io), N1 IO_L37N_3 (io), N2 IO_L37P_3 (io), P1 IO_L2N_3 (io), P2 IO_L2P_3 (io)
part E pins: A14 TCK (in), D12 TDO (out), E10 TDI (in), E13 TMS (in), L10 CMPCS_B_2 (in), L13 SUSPEND (in), R2 PROGRAM_B_2 (in), R14 DONE_2 (io)
part F pins: B1 VCCAUX (power), B4 VCCO_0 (power), B8 VCCO_0 (power), B12 VCCO_0 (power), D2 VCCO_3 (power), D9 VCCO_0 (power), D14 VCCO_1 (power), E12 VCCAUX (power), F7 VCCAUX (power), F9 VCCINT (power), G4 VCCO_3 (power), G6 VCCINT (power), G8 VCCINT (power), G10 VCCAUX (power), H2 VCCO_3 (power), H7 VCCINT (power), H9 VCCINT (power), H14 VCCO_1 (power), J6 VCCAUX (power), J8 VCCINT (power), J10 VCCINT (power), J12 VCCO_1 (power), K7 VCCINT (power), K9 VCCAUX (power), L4 VCCAUX (power), M2 VCCO_3 (power), M7 VCCO_2 (power), M12 VCCAUX (power), M14 VCCO_1 (power), P4 VCCO_2 (power), P8 VCCO_2 (power), P12 VCCO_2 (power)
part G pins: A1 GND (power), A15 GND (power), B6 GND (power), B10 GND (power), C3 GND (power), C13 GND (power), E11 GND (power), F2 GND (power), F6 GND (power), F14 GND (power), G7 GND (power), G9 GND (power), H8 GND (power), J7 GND (power), J9 GND (power), K2 GND (power), K6 GND (power), K14 GND (power), L11 GND (power), N3 GND (power), N13 GND (power), P6 GND (power), P10 GND (power), R1 GND (power), R15 GND (power)
part H pins: C7 NC, D6 NC, D7 NC, E4 NC, E5 NC, E6 NC, E8 NC, F4 NC, F5 NC, F8 NC, F11 NC, F12 NC, G3 NC, G5 NC, G11 NC, G12 NC, G13 NC, H4 NC, H5 NC, H6 NC, H10 NC, H11 NC, H12 NC, J5 NC, L7 NC, M6 NC, M9 NC, N9 NC
part A text: BANK 0
part B text: BANK 1
part C text: BANK 2
part D text: BANK 3

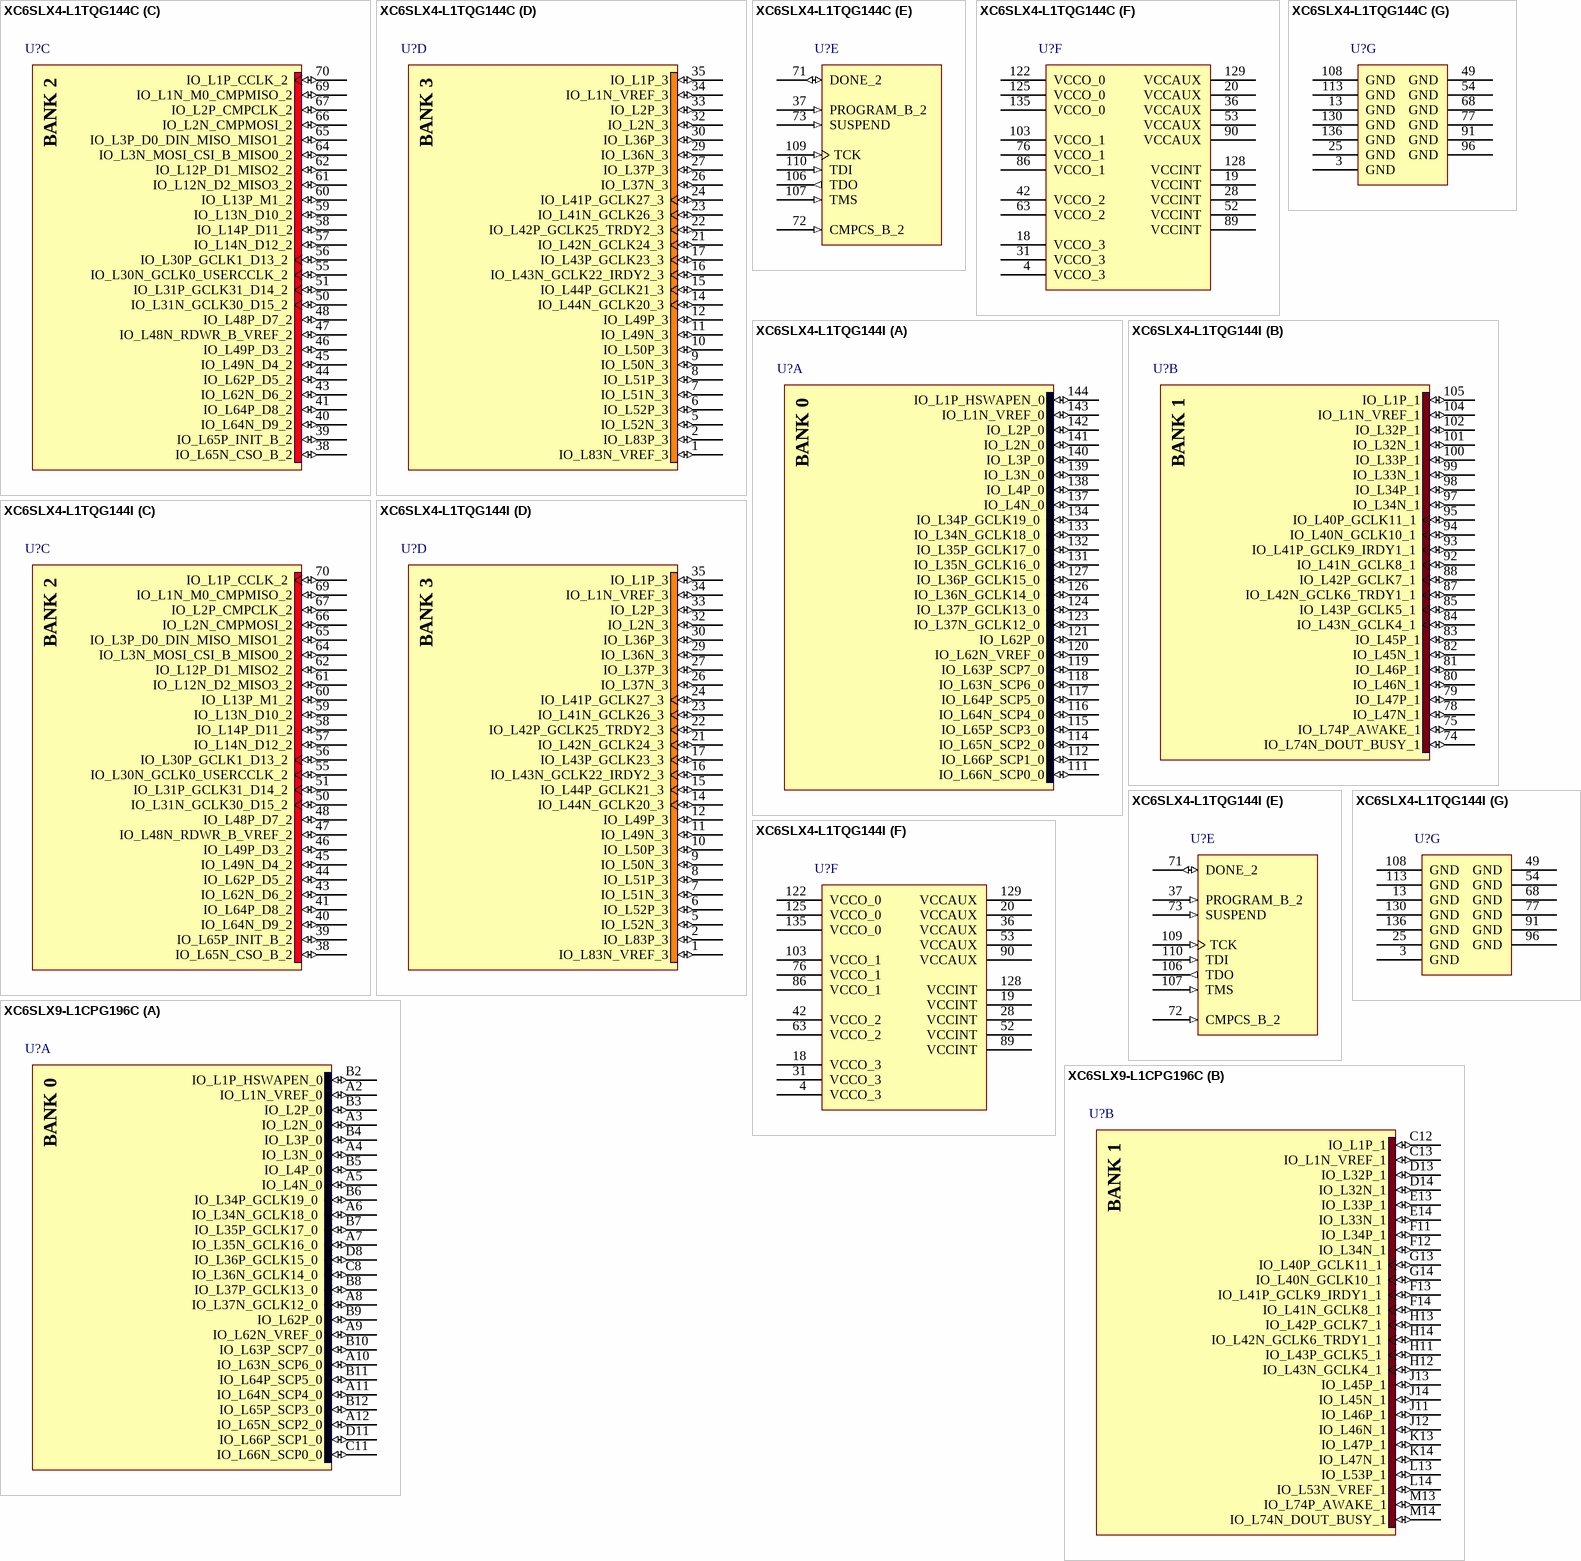
[diagram p3: symbols XC6SLX4-L1TQG144C to XC6SLX9-L1CPG196C]

## XC6SLX4-L1TQG144C
designator U?
Spartan-6 LX 1.0V FPGA, 102 User I/Os, 144-Pin TQFP (0.5mm Pitch), Low Power Version, Commercial Grade, Pb-Free; Published: 1-Jul-2010; DatasheetVersion: ver1.6, Nov-2010; PackageVersion: ver1.2, Jun-2004; PackageReference: TQG144; Publisher: Altium Limited; PackageDescription: 144-Pin Thin Quad Flat Pack (TQG144) - Pb-Free; Code_JEDEC: MS-026-BFB; ComponentLink1Description: Manufacturer Link; ComponentLink1URL: http://www.xilinx.com; ComponentLink2Description: Spartan-6 Datasheet; ComponentLink2URL: http://www.xilinx.com/support/documentation/data_sheets/ds160.pdf; ComponentLink3Description: Spartan-6 Documents; ComponentLink3URL: http://www.xilinx.com/support/documentation/spartan-6.htm; ComponentLink4Description: Xilinx.com Home; ComponentLink4URL: http://www.xilinx.com
footprint TQG144_N (Thin QFP, 144-Leads, Body 20x20mm, Pitch 0.5mm, IPC Medium Density)
footprint TQG144_L (Thin QFP, 144-Leads, Body 20x20mm, Pitch 0.5mm, IPC High Density)
footprint TQG144_M (Thin QFP, 144-Leads, Body 20x20mm, Pitch 0.5mm, IPC Low Density)
signal-integrity model XC6SLX4_TQG144 (Spartan-6)
part A pins: 111 IO_L66N_SCP0_0 (io), 112 IO_L66P_SCP1_0 (io), 114 IO_L65N_SCP2_0 (io), 115 IO_L65P_SCP3_0 (io), 116 IO_L64N_SCP4_0 (io), 117 IO_L64P_SCP5_0 (io), 118 IO_L63N_SCP6_0 (io), 119 IO_L63P_SCP7_0 (io), 120 IO_L62N_VREF_0 (io), 121 IO_L62P_0 (io), 123 IO_L37N_GCLK12_0 (io), 124 IO_L37P_GCLK13_0 (io), 126 IO_L36N_GCLK14_0 (io), 127 IO_L36P_GCLK15_0 (io), 131 IO_L35N_GCLK16_0 (io), 132 IO_L35P_GCLK17_0 (io), 133 IO_L34N_GCLK18_0 (io), 134 IO_L34P_GCLK19_0 (io), 137 IO_L4N_0 (io), 138 IO_L4P_0 (io), 139 IO_L3N_0 (io), 140 IO_L3P_0 (io), 141 IO_L2N_0 (io), 142 IO_L2P_0 (io), 143 IO_L1N_VREF_0 (io), 144 IO_L1P_HSWAPEN_0 (io)
part B pins: 74 IO_L74N_DOUT_BUSY_1 (io), 75 IO_L74P_AWAKE_1 (io), 78 IO_L47N_1 (io), 79 IO_L47P_1 (io), 80 IO_L46N_1 (io), 81 IO_L46P_1 (io), 82 IO_L45N_1 (io), 83 IO_L45P_1 (io), 84 IO_L43N_GCLK4_1 (io), 85 IO_L43P_GCLK5_1 (io), 87 IO_L42N_GCLK6_TRDY1_1 (io), 88 IO_L42P_GCLK7_1 (io), 92 IO_L41N_GCLK8_1 (io), 93 IO_L41P_GCLK9_IRDY1_1 (io), 94 IO_L40N_GCLK10_1 (io), 95 IO_L40P_GCLK11_1 (io), 97 IO_L34N_1 (io), 98 IO_L34P_1 (io), 99 IO_L33N_1 (io), 100 IO_L33P_1 (io), 101 IO_L32N_1 (io), 102 IO_L32P_1 (io), 104 IO_L1N_VREF_1 (io), 105 IO_L1P_1 (io)
part C pins: 38 IO_L65N_CSO_B_2 (io), 39 IO_L65P_INIT_B_2 (io), 40 IO_L64N_D9_2 (io), 41 IO_L64P_D8_2 (io), 43 IO_L62N_D6_2 (io), 44 IO_L62P_D5_2 (io), 45 IO_L49N_D4_2 (io), 46 IO_L49P_D3_2 (io), 47 IO_L48N_RDWR_B_VREF_2 (io), 48 IO_L48P_D7_2 (io), 50 IO_L31N_GCLK30_D15_2 (io), 51 IO_L31P_GCLK31_D14_2 (io), 55 IO_L30N_GCLK0_USERCCLK_2 (io), 56 IO_L30P_GCLK1_D13_2 (io), 57 IO_L14N_D12_2 (io), 58 IO_L14P_D11_2 (io), 59 IO_L13N_D10_2 (io), 60 IO_L13P_M1_2 (io), 61 IO_L12N_D2_MISO3_2 (io), 62 IO_L12P_D1_MISO2_2 (io), 64 IO_L3N_MOSI_CSI_B_MISO0_2 (io), 65 IO_L3P_D0_DIN_MISO_MISO1_2 (io), 66 IO_L2N_CMPMOSI_2 (io), 67 IO_L2P_CMPCLK_2 (io), 69 IO_L1N_M0_CMPMISO_2 (io), 70 IO_L1P_CCLK_2 (io)
part D pins: 1 IO_L83N_VREF_3 (io), 2 IO_L83P_3 (io), 5 IO_L52N_3 (io), 6 IO_L52P_3 (io), 7 IO_L51N_3 (io), 8 IO_L51P_3 (io), 9 IO_L50N_3 (io), 10 IO_L50P_3 (io), 11 IO_L49N_3 (io), 12 IO_L49P_3 (io), 14 IO_L44N_GCLK20_3 (io), 15 IO_L44P_GCLK21_3 (io), 16 IO_L43N_GCLK22_IRDY2_3 (io), 17 IO_L43P_GCLK23_3 (io), 21 IO_L42N_GCLK24_3 (io), 22 IO_L42P_GCLK25_TRDY2_3 (io), 23 IO_L41N_GCLK26_3 (io), 24 IO_L41P_GCLK27_3 (io), 26 IO_L37N_3 (io), 27 IO_L37P_3 (io), 29 IO_L36N_3 (io), 30 IO_L36P_3 (io), 32 IO_L2N_3 (io), 33 IO_L2P_3 (io), 34 IO_L1N_VREF_3 (io), 35 IO_L1P_3 (io)
part E pins: 37 PROGRAM_B_2 (in), 71 DONE_2 (io), 72 CMPCS_B_2 (in), 73 SUSPEND (in), 106 TDO (out), 107 TMS (in), 109 TCK (in), 110 TDI (in)
part F pins: 4 VCCO_3 (power), 18 VCCO_3 (power), 19 VCCINT (power), 20 VCCAUX (power), 28 VCCINT (power), 31 VCCO_3 (power), 36 VCCAUX (power), 42 VCCO_2 (power), 52 VCCINT (power), 53 VCCAUX (power), 63 VCCO_2 (power), 76 VCCO_1 (power), 86 VCCO_1 (power), 89 VCCINT (power), 90 VCCAUX (power), 103 VCCO_1 (power), 122 VCCO_0 (power), 125 VCCO_0 (power), 128 VCCINT (power), 129 VCCAUX (power), 135 VCCO_0 (power)
part G pins: 3 GND (power), 13 GND (power), 25 GND (power), 49 GND (power), 54 GND (power), 68 GND (power), 77 GND (power), 91 GND (power), 96 GND (power), 108 GND (power), 113 GND (power), 130 GND (power), 136 GND (power)
part A text: BANK 0
part B text: BANK 1
part C text: BANK 2
part D text: BANK 3

## XC6SLX4-L1TQG144I
designator U?
Spartan-6 LX 1.0V FPGA, 102 User I/Os, 144-Pin TQFP (0.5mm Pitch), Low Power Version, Industrial Grade, Pb-Free; Published: 1-Jul-2010; DatasheetVersion: ver1.6, Nov-2010; PackageVersion: ver1.2, Jun-2004; PackageReference: TQG144; Publisher: Altium Limited; PackageDescription: 144-Pin Thin Quad Flat Pack (TQG144) - Pb-Free; Code_JEDEC: MS-026-BFB; ComponentLink1Description: Manufacturer Link; ComponentLink1URL: http://www.xilinx.com; ComponentLink2Description: Spartan-6 Datasheet; ComponentLink2URL: http://www.xilinx.com/support/documentation/data_sheets/ds160.pdf; ComponentLink3Description: Spartan-6 Documents; ComponentLink3URL: http://www.xilinx.com/support/documentation/spartan-6.htm; ComponentLink4Description: Xilinx.com Home; ComponentLink4URL: http://www.xilinx.com
footprint TQG144_N (Thin QFP, 144-Leads, Body 20x20mm, Pitch 0.5mm, IPC Medium Density)
footprint TQG144_L (Thin QFP, 144-Leads, Body 20x20mm, Pitch 0.5mm, IPC High Density)
footprint TQG144_M (Thin QFP, 144-Leads, Body 20x20mm, Pitch 0.5mm, IPC Low Density)
signal-integrity model XC6SLX4_TQG144 (Spartan-6)
part A pins: 111 IO_L66N_SCP0_0 (io), 112 IO_L66P_SCP1_0 (io), 114 IO_L65N_SCP2_0 (io), 115 IO_L65P_SCP3_0 (io), 116 IO_L64N_SCP4_0 (io), 117 IO_L64P_SCP5_0 (io), 118 IO_L63N_SCP6_0 (io), 119 IO_L63P_SCP7_0 (io), 120 IO_L62N_VREF_0 (io), 121 IO_L62P_0 (io), 123 IO_L37N_GCLK12_0 (io), 124 IO_L37P_GCLK13_0 (io), 126 IO_L36N_GCLK14_0 (io), 127 IO_L36P_GCLK15_0 (io), 131 IO_L35N_GCLK16_0 (io), 132 IO_L35P_GCLK17_0 (io), 133 IO_L34N_GCLK18_0 (io), 134 IO_L34P_GCLK19_0 (io), 137 IO_L4N_0 (io), 138 IO_L4P_0 (io), 139 IO_L3N_0 (io), 140 IO_L3P_0 (io), 141 IO_L2N_0 (io), 142 IO_L2P_0 (io), 143 IO_L1N_VREF_0 (io), 144 IO_L1P_HSWAPEN_0 (io)
part B pins: 74 IO_L74N_DOUT_BUSY_1 (io), 75 IO_L74P_AWAKE_1 (io), 78 IO_L47N_1 (io), 79 IO_L47P_1 (io), 80 IO_L46N_1 (io), 81 IO_L46P_1 (io), 82 IO_L45N_1 (io), 83 IO_L45P_1 (io), 84 IO_L43N_GCLK4_1 (io), 85 IO_L43P_GCLK5_1 (io), 87 IO_L42N_GCLK6_TRDY1_1 (io), 88 IO_L42P_GCLK7_1 (io), 92 IO_L41N_GCLK8_1 (io), 93 IO_L41P_GCLK9_IRDY1_1 (io), 94 IO_L40N_GCLK10_1 (io), 95 IO_L40P_GCLK11_1 (io), 97 IO_L34N_1 (io), 98 IO_L34P_1 (io), 99 IO_L33N_1 (io), 100 IO_L33P_1 (io), 101 IO_L32N_1 (io), 102 IO_L32P_1 (io), 104 IO_L1N_VREF_1 (io), 105 IO_L1P_1 (io)
part C pins: 38 IO_L65N_CSO_B_2 (io), 39 IO_L65P_INIT_B_2 (io), 40 IO_L64N_D9_2 (io), 41 IO_L64P_D8_2 (io), 43 IO_L62N_D6_2 (io), 44 IO_L62P_D5_2 (io), 45 IO_L49N_D4_2 (io), 46 IO_L49P_D3_2 (io), 47 IO_L48N_RDWR_B_VREF_2 (io), 48 IO_L48P_D7_2 (io), 50 IO_L31N_GCLK30_D15_2 (io), 51 IO_L31P_GCLK31_D14_2 (io), 55 IO_L30N_GCLK0_USERCCLK_2 (io), 56 IO_L30P_GCLK1_D13_2 (io), 57 IO_L14N_D12_2 (io), 58 IO_L14P_D11_2 (io), 59 IO_L13N_D10_2 (io), 60 IO_L13P_M1_2 (io), 61 IO_L12N_D2_MISO3_2 (io), 62 IO_L12P_D1_MISO2_2 (io), 64 IO_L3N_MOSI_CSI_B_MISO0_2 (io), 65 IO_L3P_D0_DIN_MISO_MISO1_2 (io), 66 IO_L2N_CMPMOSI_2 (io), 67 IO_L2P_CMPCLK_2 (io), 69 IO_L1N_M0_CMPMISO_2 (io), 70 IO_L1P_CCLK_2 (io)
part D pins: 1 IO_L83N_VREF_3 (io), 2 IO_L83P_3 (io), 5 IO_L52N_3 (io), 6 IO_L52P_3 (io), 7 IO_L51N_3 (io), 8 IO_L51P_3 (io), 9 IO_L50N_3 (io), 10 IO_L50P_3 (io), 11 IO_L49N_3 (io), 12 IO_L49P_3 (io), 14 IO_L44N_GCLK20_3 (io), 15 IO_L44P_GCLK21_3 (io), 16 IO_L43N_GCLK22_IRDY2_3 (io), 17 IO_L43P_GCLK23_3 (io), 21 IO_L42N_GCLK24_3 (io), 22 IO_L42P_GCLK25_TRDY2_3 (io), 23 IO_L41N_GCLK26_3 (io), 24 IO_L41P_GCLK27_3 (io), 26 IO_L37N_3 (io), 27 IO_L37P_3 (io), 29 IO_L36N_3 (io), 30 IO_L36P_3 (io), 32 IO_L2N_3 (io), 33 IO_L2P_3 (io), 34 IO_L1N_VREF_3 (io), 35 IO_L1P_3 (io)
part E pins: 37 PROGRAM_B_2 (in), 71 DONE_2 (io), 72 CMPCS_B_2 (in), 73 SUSPEND (in), 106 TDO (out), 107 TMS (in), 109 TCK (in), 110 TDI (in)
part F pins: 4 VCCO_3 (power), 18 VCCO_3 (power), 19 VCCINT (power), 20 VCCAUX (power), 28 VCCINT (power), 31 VCCO_3 (power), 36 VCCAUX (power), 42 VCCO_2 (power), 52 VCCINT (power), 53 VCCAUX (power), 63 VCCO_2 (power), 76 VCCO_1 (power), 86 VCCO_1 (power), 89 VCCINT (power), 90 VCCAUX (power), 103 VCCO_1 (power), 122 VCCO_0 (power), 125 VCCO_0 (power), 128 VCCINT (power), 129 VCCAUX (power), 135 VCCO_0 (power)
part G pins: 3 GND (power), 13 GND (power), 25 GND (power), 49 GND (power), 54 GND (power), 68 GND (power), 77 GND (power), 91 GND (power), 96 GND (power), 108 GND (power), 113 GND (power), 130 GND (power), 136 GND (power)
part A text: BANK 0
part B text: BANK 1
part C text: BANK 2
part D text: BANK 3

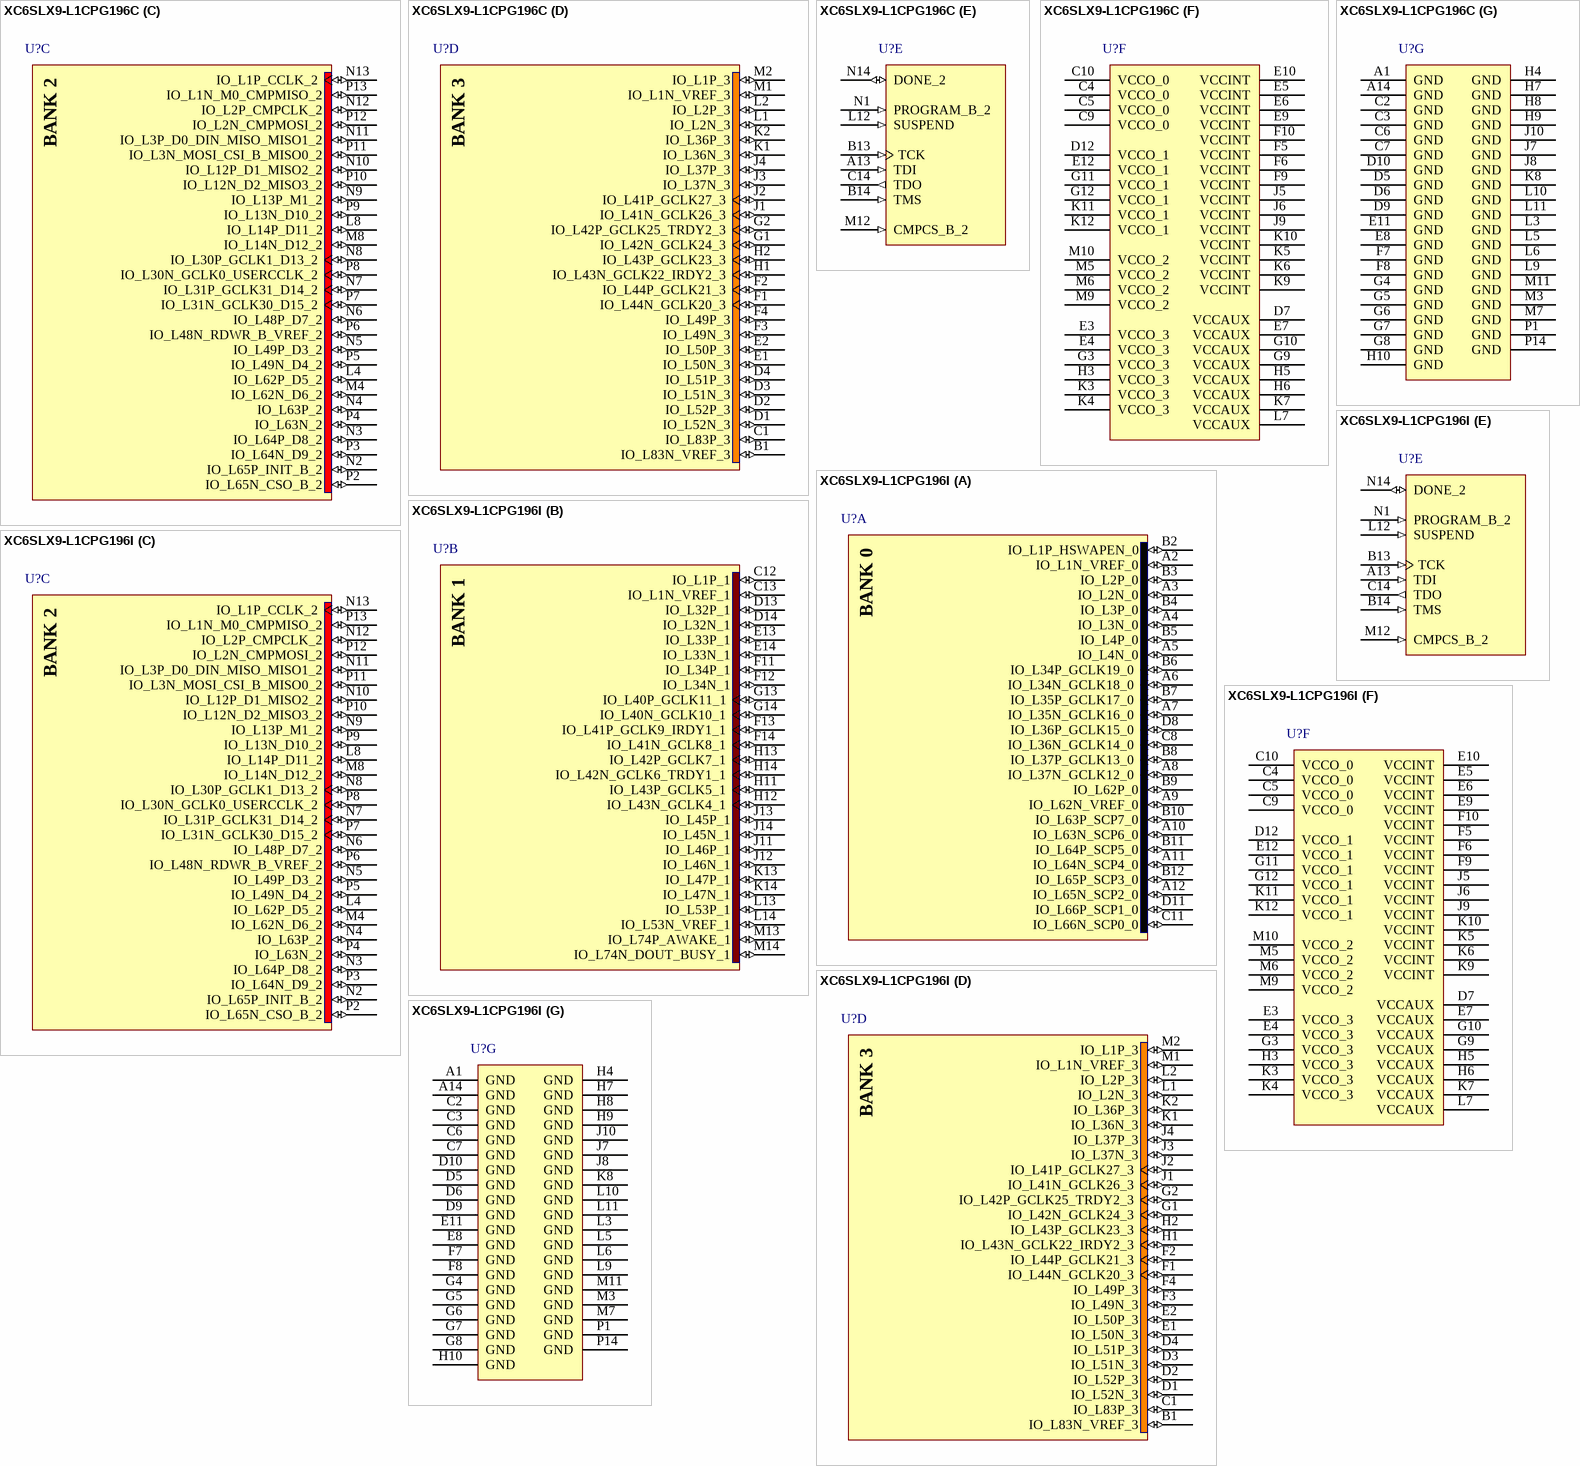
[diagram p4: symbols XC6SLX9-L1CPG196C to XC6SLX9-L1CPG196I]

## XC6SLX9-L1CPG196C
designator U?
Spartan-6 LX 1.0V FPGA, 106 User I/Os, 196-Ball Chip-Scale BGA (0.5mm Pitch), Low Power Version, Commercial Grade, Pb-Free; Published: 1-Jul-2010; DatasheetVersion: ver1.6, Nov-2010; PackageVersion: ver1.0, Dec-2009; PackageReference: CPG196; Publisher: Altium Limited; PackageDescription: 196-Ball Chip Scale Ball Grid Array 0.5 mm Pitch (CPG196) - Pb-Free; Code_JEDEC: MO-275; ComponentLink1Description: Manufacturer Link; ComponentLink1URL: http://www.xilinx.com; ComponentLink2Description: Spartan-6 Datasheet; ComponentLink2URL: http://www.xilinx.com/support/documentation/data_sheets/ds160.pdf; ComponentLink3Description: Spartan-6 Documents; ComponentLink3URL: http://www.xilinx.com/support/documentation/spartan-6.htm; ComponentLink4Description: Xilinx.com Home; ComponentLink4URL: http://www.xilinx.com
footprint CPG196 (BGA, 196-Leads, Body 8x8mm, Pitch 0.5mm)
signal-integrity model XC6SLX9_CPG196 (Spartan-6)
part A pins: A2 IO_L1N_VREF_0 (io), A3 IO_L2N_0 (io), A4 IO_L3N_0 (io), A5 IO_L4N_0 (io), A6 IO_L34N_GCLK18_0 (io), A7 IO_L35N_GCLK16_0 (io), A8 IO_L37N_GCLK12_0 (io), A9 IO_L62N_VREF_0 (io), A10 IO_L63N_SCP6_0 (io), A11 IO_L64N_SCP4_0 (io), A12 IO_L65N_SCP2_0 (io), B2 IO_L1P_HSWAPEN_0 (io), B3 IO_L2P_0 (io), B4 IO_L3P_0 (io), B5 IO_L4P_0 (io), B6 IO_L34P_GCLK19_0 (io), B7 IO_L35P_GCLK17_0 (io), B8 IO_L37P_GCLK13_0 (io), B9 IO_L62P_0 (io), B10 IO_L63P_SCP7_0 (io), B11 IO_L64P_SCP5_0 (io), B12 IO_L65P_SCP3_0 (io), C8 IO_L36N_GCLK14_0 (io), C11 IO_L66N_SCP0_0 (io), D8 IO_L36P_GCLK15_0 (io), D11 IO_L66P_SCP1_0 (io)
part B pins: C12 IO_L1P_1 (io), C13 IO_L1N_VREF_1 (io), D13 IO_L32P_1 (io), D14 IO_L32N_1 (io), E13 IO_L33P_1 (io), E14 IO_L33N_1 (io), F11 IO_L34P_1 (io), F12 IO_L34N_1 (io), F13 IO_L41P_GCLK9_IRDY1_1 (io), F14 IO_L41N_GCLK8_1 (io), G13 IO_L40P_GCLK11_1 (io), G14 IO_L40N_GCLK10_1 (io), H11 IO_L43P_GCLK5_1 (io), H12 IO_L43N_GCLK4_1 (io), H13 IO_L42P_GCLK7_1 (io), H14 IO_L42N_GCLK6_TRDY1_1 (io), J11 IO_L46P_1 (io), J12 IO_L46N_1 (io), J13 IO_L45P_1 (io), J14 IO_L45N_1 (io), K13 IO_L47P_1 (io), K14 IO_L47N_1 (io), L13 IO_L53P_1 (io), L14 IO_L53N_VREF_1 (io), M13 IO_L74P_AWAKE_1 (io), M14 IO_L74N_DOUT_BUSY_1 (io)
part C pins: L4 IO_L62P_D5_2 (io), L8 IO_L14P_D11_2 (io), M4 IO_L62N_D6_2 (io), M8 IO_L14N_D12_2 (io), N2 IO_L65P_INIT_B_2 (io), N3 IO_L64P_D8_2 (io), N4 IO_L63P_2 (io), N5 IO_L49P_D3_2 (io), N6 IO_L48P_D7_2 (io), N7 IO_L31P_GCLK31_D14_2 (io), N8 IO_L30P_GCLK1_D13_2 (io), N9 IO_L13P_M1_2 (io), N10 IO_L12P_D1_MISO2_2 (io), N11 IO_L3P_D0_DIN_MISO_MISO1_2 (io), N12 IO_L2P_CMPCLK_2 (io), N13 IO_L1P_CCLK_2 (io), P2 IO_L65N_CSO_B_2 (io), P3 IO_L64N_D9_2 (io), P4 IO_L63N_2 (io), P5 IO_L49N_D4_2 (io), P6 IO_L48N_RDWR_B_VREF_2 (io), P7 IO_L31N_GCLK30_D15_2 (io), P8 IO_L30N_GCLK0_USERCCLK_2 (io), P9 IO_L13N_D10_2 (io), P10 IO_L12N_D2_MISO3_2 (io), P11 IO_L3N_MOSI_CSI_B_MISO0_2 (io), P12 IO_L2N_CMPMOSI_2 (io), P13 IO_L1N_M0_CMPMISO_2 (io)
part D pins: B1 IO_L83N_VREF_3 (io), C1 IO_L83P_3 (io), D1 IO_L52N_3 (io), D2 IO_L52P_3 (io), D3 IO_L51N_3 (io), D4 IO_L51P_3 (io), E1 IO_L50N_3 (io), E2 IO_L50P_3 (io), F1 IO_L44N_GCLK20_3 (io), F2 IO_L44P_GCLK21_3 (io), F3 IO_L49N_3 (io), F4 IO_L49P_3 (io), G1 IO_L42N_GCLK24_3 (io), G2 IO_L42P_GCLK25_TRDY2_3 (io), H1 IO_L43N_GCLK22_IRDY2_3 (io), H2 IO_L43P_GCLK23_3 (io), J1 IO_L41N_GCLK26_3 (io), J2 IO_L41P_GCLK27_3 (io), J3 IO_L37N_3 (io), J4 IO_L37P_3 (io), K1 IO_L36N_3 (io), K2 IO_L36P_3 (io), L1 IO_L2N_3 (io), L2 IO_L2P_3 (io), M1 IO_L1N_VREF_3 (io), M2 IO_L1P_3 (io)
part E pins: A13 TDI (in), B13 TCK (in), B14 TMS (in), C14 TDO (out), L12 SUSPEND (in), M12 CMPCS_B_2 (in), N1 PROGRAM_B_2 (in), N14 DONE_2 (io)
part F pins: C4 VCCO_0 (power), C5 VCCO_0 (power), C9 VCCO_0 (power), C10 VCCO_0 (power), D7 VCCAUX (power), D12 VCCO_1 (power), E3 VCCO_3 (power), E4 VCCO_3 (power), E5 VCCINT (power), E6 VCCINT (power), E7 VCCAUX (power), E9 VCCINT (power), E10 VCCINT (power), E12 VCCO_1 (power), F5 VCCINT (power), F6 VCCINT (power), F9 VCCINT (power), F10 VCCINT (power), G3 VCCO_3 (power), G9 VCCAUX (power), G10 VCCAUX (power), G11 VCCO_1 (power), G12 VCCO_1 (power), H3 VCCO_3 (power), H5 VCCAUX (power), H6 VCCAUX (power), J5 VCCINT (power), J6 VCCINT (power), J9 VCCINT (power), K3 VCCO_3 (power), K4 VCCO_3 (power), K5 VCCINT (power), K6 VCCINT (power), K7 VCCAUX (power), K9 VCCINT (power), K10 VCCINT (power), K11 VCCO_1 (power), K12 VCCO_1 (power), L7 VCCAUX (power), M5 VCCO_2 (power), M6 VCCO_2 (power), M9 VCCO_2 (power), M10 VCCO_2 (power)
part G pins: A1 GND (power), A14 GND (power), C2 GND (power), C3 GND (power), C6 GND (power), C7 GND (power), D5 GND (power), D6 GND (power), D9 GND (power), D10 GND (power), E8 GND (power), E11 GND (power), F7 GND (power), F8 GND (power), G4 GND (power), G5 GND (power), G6 GND (power), G7 GND (power), G8 GND (power), H4 GND (power), H7 GND (power), H8 GND (power), H9 GND (power), H10 GND (power), J7 GND (power), J8 GND (power), J10 GND (power), K8 GND (power), L3 GND (power), L5 GND (power), L6 GND (power), L9 GND (power), L10 GND (power), L11 GND (power), M3 GND (power), M7 GND (power), M11 GND (power), P1 GND (power), P14 GND (power)
part A text: BANK 0
part B text: BANK 1
part C text: BANK 2
part D text: BANK 3

## XC6SLX9-L1CPG196I
designator U?
Spartan-6 LX 1.0V FPGA, 106 User I/Os, 196-Ball Chip-Scale BGA (0.5mm Pitch), Low Power Version, Industrial Grade, Pb-Free; Published: 1-Jul-2010; DatasheetVersion: ver1.6, Nov-2010; PackageVersion: ver1.0, Dec-2009; PackageReference: CPG196; Publisher: Altium Limited; PackageDescription: 196-Ball Chip Scale Ball Grid Array 0.5 mm Pitch (CPG196) - Pb-Free; Code_JEDEC: MO-275; ComponentLink1Description: Manufacturer Link; ComponentLink1URL: http://www.xilinx.com; ComponentLink2Description: Spartan-6 Datasheet; ComponentLink2URL: http://www.xilinx.com/support/documentation/data_sheets/ds160.pdf; ComponentLink3Description: Spartan-6 Documents; ComponentLink3URL: http://www.xilinx.com/support/documentation/spartan-6.htm; ComponentLink4Description: Xilinx.com Home; ComponentLink4URL: http://www.xilinx.com
footprint CPG196 (BGA, 196-Leads, Body 8x8mm, Pitch 0.5mm)
signal-integrity model XC6SLX9_CPG196 (Spartan-6)
part A pins: A2 IO_L1N_VREF_0 (io), A3 IO_L2N_0 (io), A4 IO_L3N_0 (io), A5 IO_L4N_0 (io), A6 IO_L34N_GCLK18_0 (io), A7 IO_L35N_GCLK16_0 (io), A8 IO_L37N_GCLK12_0 (io), A9 IO_L62N_VREF_0 (io), A10 IO_L63N_SCP6_0 (io), A11 IO_L64N_SCP4_0 (io), A12 IO_L65N_SCP2_0 (io), B2 IO_L1P_HSWAPEN_0 (io), B3 IO_L2P_0 (io), B4 IO_L3P_0 (io), B5 IO_L4P_0 (io), B6 IO_L34P_GCLK19_0 (io), B7 IO_L35P_GCLK17_0 (io), B8 IO_L37P_GCLK13_0 (io), B9 IO_L62P_0 (io), B10 IO_L63P_SCP7_0 (io), B11 IO_L64P_SCP5_0 (io), B12 IO_L65P_SCP3_0 (io), C8 IO_L36N_GCLK14_0 (io), C11 IO_L66N_SCP0_0 (io), D8 IO_L36P_GCLK15_0 (io), D11 IO_L66P_SCP1_0 (io)
part B pins: C12 IO_L1P_1 (io), C13 IO_L1N_VREF_1 (io), D13 IO_L32P_1 (io), D14 IO_L32N_1 (io), E13 IO_L33P_1 (io), E14 IO_L33N_1 (io), F11 IO_L34P_1 (io), F12 IO_L34N_1 (io), F13 IO_L41P_GCLK9_IRDY1_1 (io), F14 IO_L41N_GCLK8_1 (io), G13 IO_L40P_GCLK11_1 (io), G14 IO_L40N_GCLK10_1 (io), H11 IO_L43P_GCLK5_1 (io), H12 IO_L43N_GCLK4_1 (io), H13 IO_L42P_GCLK7_1 (io), H14 IO_L42N_GCLK6_TRDY1_1 (io), J11 IO_L46P_1 (io), J12 IO_L46N_1 (io), J13 IO_L45P_1 (io), J14 IO_L45N_1 (io), K13 IO_L47P_1 (io), K14 IO_L47N_1 (io), L13 IO_L53P_1 (io), L14 IO_L53N_VREF_1 (io), M13 IO_L74P_AWAKE_1 (io), M14 IO_L74N_DOUT_BUSY_1 (io)
part C pins: L4 IO_L62P_D5_2 (io), L8 IO_L14P_D11_2 (io), M4 IO_L62N_D6_2 (io), M8 IO_L14N_D12_2 (io), N2 IO_L65P_INIT_B_2 (io), N3 IO_L64P_D8_2 (io), N4 IO_L63P_2 (io), N5 IO_L49P_D3_2 (io), N6 IO_L48P_D7_2 (io), N7 IO_L31P_GCLK31_D14_2 (io), N8 IO_L30P_GCLK1_D13_2 (io), N9 IO_L13P_M1_2 (io), N10 IO_L12P_D1_MISO2_2 (io), N11 IO_L3P_D0_DIN_MISO_MISO1_2 (io), N12 IO_L2P_CMPCLK_2 (io), N13 IO_L1P_CCLK_2 (io), P2 IO_L65N_CSO_B_2 (io), P3 IO_L64N_D9_2 (io), P4 IO_L63N_2 (io), P5 IO_L49N_D4_2 (io), P6 IO_L48N_RDWR_B_VREF_2 (io), P7 IO_L31N_GCLK30_D15_2 (io), P8 IO_L30N_GCLK0_USERCCLK_2 (io), P9 IO_L13N_D10_2 (io), P10 IO_L12N_D2_MISO3_2 (io), P11 IO_L3N_MOSI_CSI_B_MISO0_2 (io), P12 IO_L2N_CMPMOSI_2 (io), P13 IO_L1N_M0_CMPMISO_2 (io)
part D pins: B1 IO_L83N_VREF_3 (io), C1 IO_L83P_3 (io), D1 IO_L52N_3 (io), D2 IO_L52P_3 (io), D3 IO_L51N_3 (io), D4 IO_L51P_3 (io), E1 IO_L50N_3 (io), E2 IO_L50P_3 (io), F1 IO_L44N_GCLK20_3 (io), F2 IO_L44P_GCLK21_3 (io), F3 IO_L49N_3 (io), F4 IO_L49P_3 (io), G1 IO_L42N_GCLK24_3 (io), G2 IO_L42P_GCLK25_TRDY2_3 (io), H1 IO_L43N_GCLK22_IRDY2_3 (io), H2 IO_L43P_GCLK23_3 (io), J1 IO_L41N_GCLK26_3 (io), J2 IO_L41P_GCLK27_3 (io), J3 IO_L37N_3 (io), J4 IO_L37P_3 (io), K1 IO_L36N_3 (io), K2 IO_L36P_3 (io), L1 IO_L2N_3 (io), L2 IO_L2P_3 (io), M1 IO_L1N_VREF_3 (io), M2 IO_L1P_3 (io)
part E pins: A13 TDI (in), B13 TCK (in), B14 TMS (in), C14 TDO (out), L12 SUSPEND (in), M12 CMPCS_B_2 (in), N1 PROGRAM_B_2 (in), N14 DONE_2 (io)
part F pins: C4 VCCO_0 (power), C5 VCCO_0 (power), C9 VCCO_0 (power), C10 VCCO_0 (power), D7 VCCAUX (power), D12 VCCO_1 (power), E3 VCCO_3 (power), E4 VCCO_3 (power), E5 VCCINT (power), E6 VCCINT (power), E7 VCCAUX (power), E9 VCCINT (power), E10 VCCINT (power), E12 VCCO_1 (power), F5 VCCINT (power), F6 VCCINT (power), F9 VCCINT (power), F10 VCCINT (power), G3 VCCO_3 (power), G9 VCCAUX (power), G10 VCCAUX (power), G11 VCCO_1 (power), G12 VCCO_1 (power), H3 VCCO_3 (power), H5 VCCAUX (power), H6 VCCAUX (power), J5 VCCINT (power), J6 VCCINT (power), J9 VCCINT (power), K3 VCCO_3 (power), K4 VCCO_3 (power), K5 VCCINT (power), K6 VCCINT (power), K7 VCCAUX (power), K9 VCCINT (power), K10 VCCINT (power), K11 VCCO_1 (power), K12 VCCO_1 (power), L7 VCCAUX (power), M5 VCCO_2 (power), M6 VCCO_2 (power), M9 VCCO_2 (power), M10 VCCO_2 (power)
part G pins: A1 GND (power), A14 GND (power), C2 GND (power), C3 GND (power), C6 GND (power), C7 GND (power), D5 GND (power), D6 GND (power), D9 GND (power), D10 GND (power), E8 GND (power), E11 GND (power), F7 GND (power), F8 GND (power), G4 GND (power), G5 GND (power), G6 GND (power), G7 GND (power), G8 GND (power), H4 GND (power), H7 GND (power), H8 GND (power), H9 GND (power), H10 GND (power), J7 GND (power), J8 GND (power), J10 GND (power), K8 GND (power), L3 GND (power), L5 GND (power), L6 GND (power), L9 GND (power), L10 GND (power), L11 GND (power), M3 GND (power), M7 GND (power), M11 GND (power), P1 GND (power), P14 GND (power)
part A text: BANK 0
part B text: BANK 1
part C text: BANK 2
part D text: BANK 3

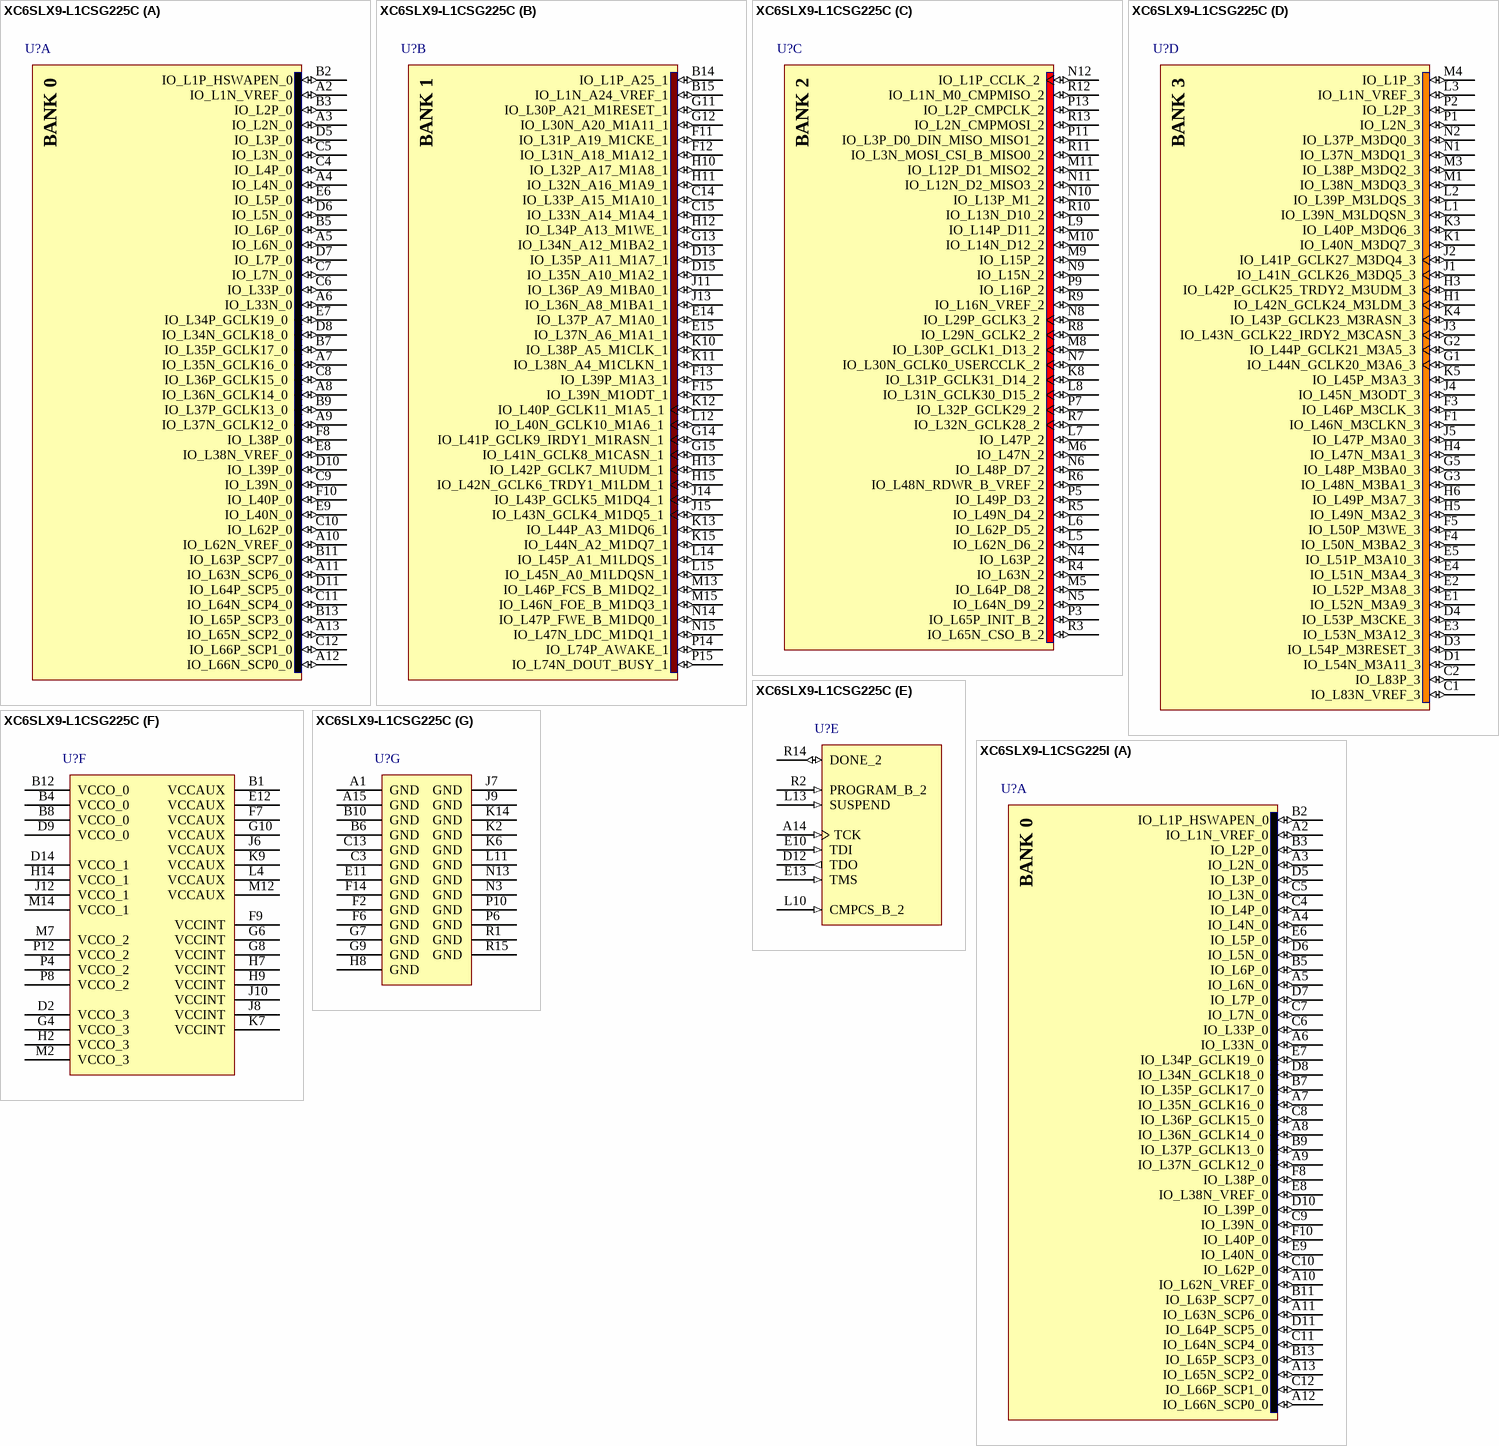
[diagram p5: symbols XC6SLX9-L1CSG225C to XC6SLX9-L1CSG225I]

## XC6SLX9-L1CSG225C
designator U?
Spartan-6 LX 1.0V FPGA, 160 User I/Os, 225-Ball Chip-Scale BGA (0.8mm Pitch), Low Power Version, Commercial Grade, Pb-Free; Published: 17-Nov-2009; DatasheetVersion: ver1.6, Nov-2010; PackageVersion: ver1.1, Nov-2009; PackageReference: CSG225; Publisher: Altium Limited; PackageDescription: 225-Ball Chip-Scale BGA (CSG225) Package, 0.8 mm Pitch; Code_JEDEC: MO-275-HHAC-1; ComponentLink1Description: Manufacturer Link; ComponentLink1URL: http://www.xilinx.com; ComponentLink2Description: Spartan-6 Datasheet; ComponentLink2URL: http://www.xilinx.com/support/documentation/data_sheets/ds160.pdf; ComponentLink3Description: Spartan-6 Documents; ComponentLink3URL: http://www.xilinx.com/support/documentation/spartan-6.htm; ComponentLink4Description: Xilinx.com Home; ComponentLink4URL: http://www.xilinx.com
footprint CSG225 (BGA, 225-Leads, Body 13x13mm, Pitch 0.8mm)
signal-integrity model XC6SLX9_CSG225 (Spartan-6)
part A pins: A2 IO_L1N_VREF_0 (io), A3 IO_L2N_0 (io), A4 IO_L4N_0 (io), A5 IO_L6N_0 (io), A6 IO_L33N_0 (io), A7 IO_L35N_GCLK16_0 (io), A8 IO_L36N_GCLK14_0 (io), A9 IO_L37N_GCLK12_0 (io), A10 IO_L62N_VREF_0 (io), A11 IO_L63N_SCP6_0 (io), A12 IO_L66N_SCP0_0 (io), A13 IO_L65N_SCP2_0 (io), B2 IO_L1P_HSWAPEN_0 (io), B3 IO_L2P_0 (io), B5 IO_L6P_0 (io), B7 IO_L35P_GCLK17_0 (io), B9 IO_L37P_GCLK13_0 (io), B11 IO_L63P_SCP7_0 (io), B13 IO_L65P_SCP3_0 (io), C4 IO_L4P_0 (io), C5 IO_L3N_0 (io), C6 IO_L33P_0 (io), C7 IO_L7N_0 (io), C8 IO_L36P_GCLK15_0 (io), C9 IO_L39N_0 (io), C10 IO_L62P_0 (io), C11 IO_L64N_SCP4_0 (io), C12 IO_L66P_SCP1_0 (io), D5 IO_L3P_0 (io), D6 IO_L5N_0 (io), D7 IO_L7P_0 (io), D8 IO_L34N_GCLK18_0 (io), D10 IO_L39P_0 (io), D11 IO_L64P_SCP5_0 (io), E6 IO_L5P_0 (io), E7 IO_L34P_GCLK19_0 (io), E8 IO_L38N_VREF_0 (io), E9 IO_L40N_0 (io), F8 IO_L38P_0 (io), F10 IO_L40P_0 (io)
part B pins: B14 IO_L1P_A25_1 (io), B15 IO_L1N_A24_VREF_1 (io), C14 IO_L33P_A15_M1A10_1 (io), C15 IO_L33N_A14_M1A4_1 (io), D13 IO_L35P_A11_M1A7_1 (io), D15 IO_L35N_A10_M1A2_1 (io), E14 IO_L37P_A7_M1A0_1 (io), E15 IO_L37N_A6_M1A1_1 (io), F11 IO_L31P_A19_M1CKE_1 (io), F12 IO_L31N_A18_M1A12_1 (io), F13 IO_L39P_M1A3_1 (io), F15 IO_L39N_M1ODT_1 (io), G11 IO_L30P_A21_M1RESET_1 (io), G12 IO_L30N_A20_M1A11_1 (io), G13 IO_L34N_A12_M1BA2_1 (io), G14 IO_L41P_GCLK9_IRDY1_M1RASN_1 (io), G15 IO_L41N_GCLK8_M1CASN_1 (io), H10 IO_L32P_A17_M1A8_1 (io), H11 IO_L32N_A16_M1A9_1 (io), H12 IO_L34P_A13_M1WE_1 (io), H13 IO_L42P_GCLK7_M1UDM_1 (io), H15 IO_L42N_GCLK6_TRDY1_M1LDM_1 (io), J11 IO_L36P_A9_M1BA0_1 (io), J13 IO_L36N_A8_M1BA1_1 (io), J14 IO_L43P_GCLK5_M1DQ4_1 (io), J15 IO_L43N_GCLK4_M1DQ5_1 (io), K10 IO_L38P_A5_M1CLK_1 (io), K11 IO_L38N_A4_M1CLKN_1 (io), K12 IO_L40P_GCLK11_M1A5_1 (io), K13 IO_L44P_A3_M1DQ6_1 (io), K15 IO_L44N_A2_M1DQ7_1 (io), L12 IO_L40N_GCLK10_M1A6_1 (io), L14 IO_L45P_A1_M1LDQS_1 (io), L15 IO_L45N_A0_M1LDQSN_1 (io), M13 IO_L46P_FCS_B_M1DQ2_1 (io), M15 IO_L46N_FOE_B_M1DQ3_1 (io), N14 IO_L47P_FWE_B_M1DQ0_1 (io), N15 IO_L47N_LDC_M1DQ1_1 (io), P14 IO_L74P_AWAKE_1 (io), P15 IO_L74N_DOUT_BUSY_1 (io)
part C pins: K8 IO_L31P_GCLK31_D14_2 (io), L5 IO_L62N_D6_2 (io), L6 IO_L62P_D5_2 (io), L7 IO_L47P_2 (io), L8 IO_L31N_GCLK30_D15_2 (io), L9 IO_L14P_D11_2 (io), M5 IO_L64P_D8_2 (io), M6 IO_L47N_2 (io), M8 IO_L30P_GCLK1_D13_2 (io), M9 IO_L15P_2 (io), M10 IO_L14N_D12_2 (io), M11 IO_L12P_D1_MISO2_2 (io), N4 IO_L63P_2 (io), N5 IO_L64N_D9_2 (io), N6 IO_L48P_D7_2 (io), N7 IO_L30N_GCLK0_USERCCLK_2 (io), N8 IO_L29P_GCLK3_2 (io), N9 IO_L15N_2 (io), N10 IO_L13P_M1_2 (io), N11 IO_L12N_D2_MISO3_2 (io), N12 IO_L1P_CCLK_2 (io), P3 IO_L65P_INIT_B_2 (io), P5 IO_L49P_D3_2 (io), P7 IO_L32P_GCLK29_2 (io), P9 IO_L16P_2 (io), P11 IO_L3P_D0_DIN_MISO_MISO1_2 (io), P13 IO_L2P_CMPCLK_2 (io), R3 IO_L65N_CSO_B_2 (io), R4 IO_L63N_2 (io), R5 IO_L49N_D4_2 (io), R6 IO_L48N_RDWR_B_VREF_2 (io), R7 IO_L32N_GCLK28_2 (io), R8 IO_L29N_GCLK2_2 (io), R9 IO_L16N_VREF_2 (io), R10 IO_L13N_D10_2 (io), R11 IO_L3N_MOSI_CSI_B_MISO0_2 (io), R12 IO_L1N_M0_CMPMISO_2 (io), R13 IO_L2N_CMPMOSI_2 (io)
part D pins: C1 IO_L83N_VREF_3 (io), C2 IO_L83P_3 (io), D1 IO_L54N_M3A11_3 (io), D3 IO_L54P_M3RESET_3 (io), D4 IO_L53P_M3CKE_3 (io), E1 IO_L52N_M3A9_3 (io), E2 IO_L52P_M3A8_3 (io), E3 IO_L53N_M3A12_3 (io), E4 IO_L51N_M3A4_3 (io), E5 IO_L51P_M3A10_3 (io), F1 IO_L46N_M3CLKN_3 (io), F3 IO_L46P_M3CLK_3 (io), F4 IO_L50N_M3BA2_3 (io), F5 IO_L50P_M3WE_3 (io), G1 IO_L44N_GCLK20_M3A6_3 (io), G2 IO_L44P_GCLK21_M3A5_3 (io), G3 IO_L48N_M3BA1_3 (io), G5 IO_L48P_M3BA0_3 (io), H1 IO_L42N_GCLK24_M3LDM_3 (io), H3 IO_L42P_GCLK25_TRDY2_M3UDM_3 (io), H4 IO_L47N_M3A1_3 (io), H5 IO_L49N_M3A2_3 (io), H6 IO_L49P_M3A7_3 (io), J1 IO_L41N_GCLK26_M3DQ5_3 (io), J2 IO_L41P_GCLK27_M3DQ4_3 (io), J3 IO_L43N_GCLK22_IRDY2_M3CASN_3 (io), J4 IO_L45N_M3ODT_3 (io), J5 IO_L47P_M3A0_3 (io), K1 IO_L40N_M3DQ7_3 (io), K3 IO_L40P_M3DQ6_3 (io), K4 IO_L43P_GCLK23_M3RASN_3 (io), K5 IO_L45P_M3A3_3 (io), L1 IO_L39N_M3LDQSN_3 (io), L2 IO_L39P_M3LDQS_3 (io), L3 IO_L1N_VREF_3 (io), M1 IO_L38N_M3DQ3_3 (io), M3 IO_L38P_M3DQ2_3 (io), M4 IO_L1P_3 (io), N1 IO_L37N_M3DQ1_3 (io), N2 IO_L37P_M3DQ0_3 (io), P1 IO_L2N_3 (io), P2 IO_L2P_3 (io)
part E pins: A14 TCK (in), D12 TDO (out), E10 TDI (in), E13 TMS (in), L10 CMPCS_B_2 (in), L13 SUSPEND (in), R2 PROGRAM_B_2 (in), R14 DONE_2 (io)
part F pins: B1 VCCAUX (power), B4 VCCO_0 (power), B8 VCCO_0 (power), B12 VCCO_0 (power), D2 VCCO_3 (power), D9 VCCO_0 (power), D14 VCCO_1 (power), E12 VCCAUX (power), F7 VCCAUX (power), F9 VCCINT (power), G4 VCCO_3 (power), G6 VCCINT (power), G8 VCCINT (power), G10 VCCAUX (power), H2 VCCO_3 (power), H7 VCCINT (power), H9 VCCINT (power), H14 VCCO_1 (power), J6 VCCAUX (power), J8 VCCINT (power), J10 VCCINT (power), J12 VCCO_1 (power), K7 VCCINT (power), K9 VCCAUX (power), L4 VCCAUX (power), M2 VCCO_3 (power), M7 VCCO_2 (power), M12 VCCAUX (power), M14 VCCO_1 (power), P4 VCCO_2 (power), P8 VCCO_2 (power), P12 VCCO_2 (power)
part G pins: A1 GND (power), A15 GND (power), B6 GND (power), B10 GND (power), C3 GND (power), C13 GND (power), E11 GND (power), F2 GND (power), F6 GND (power), F14 GND (power), G7 GND (power), G9 GND (power), H8 GND (power), J7 GND (power), J9 GND (power), K2 GND (power), K6 GND (power), K14 GND (power), L11 GND (power), N3 GND (power), N13 GND (power), P6 GND (power), P10 GND (power), R1 GND (power), R15 GND (power)
part A text: BANK 0
part B text: BANK 1
part C text: BANK 2
part D text: BANK 3

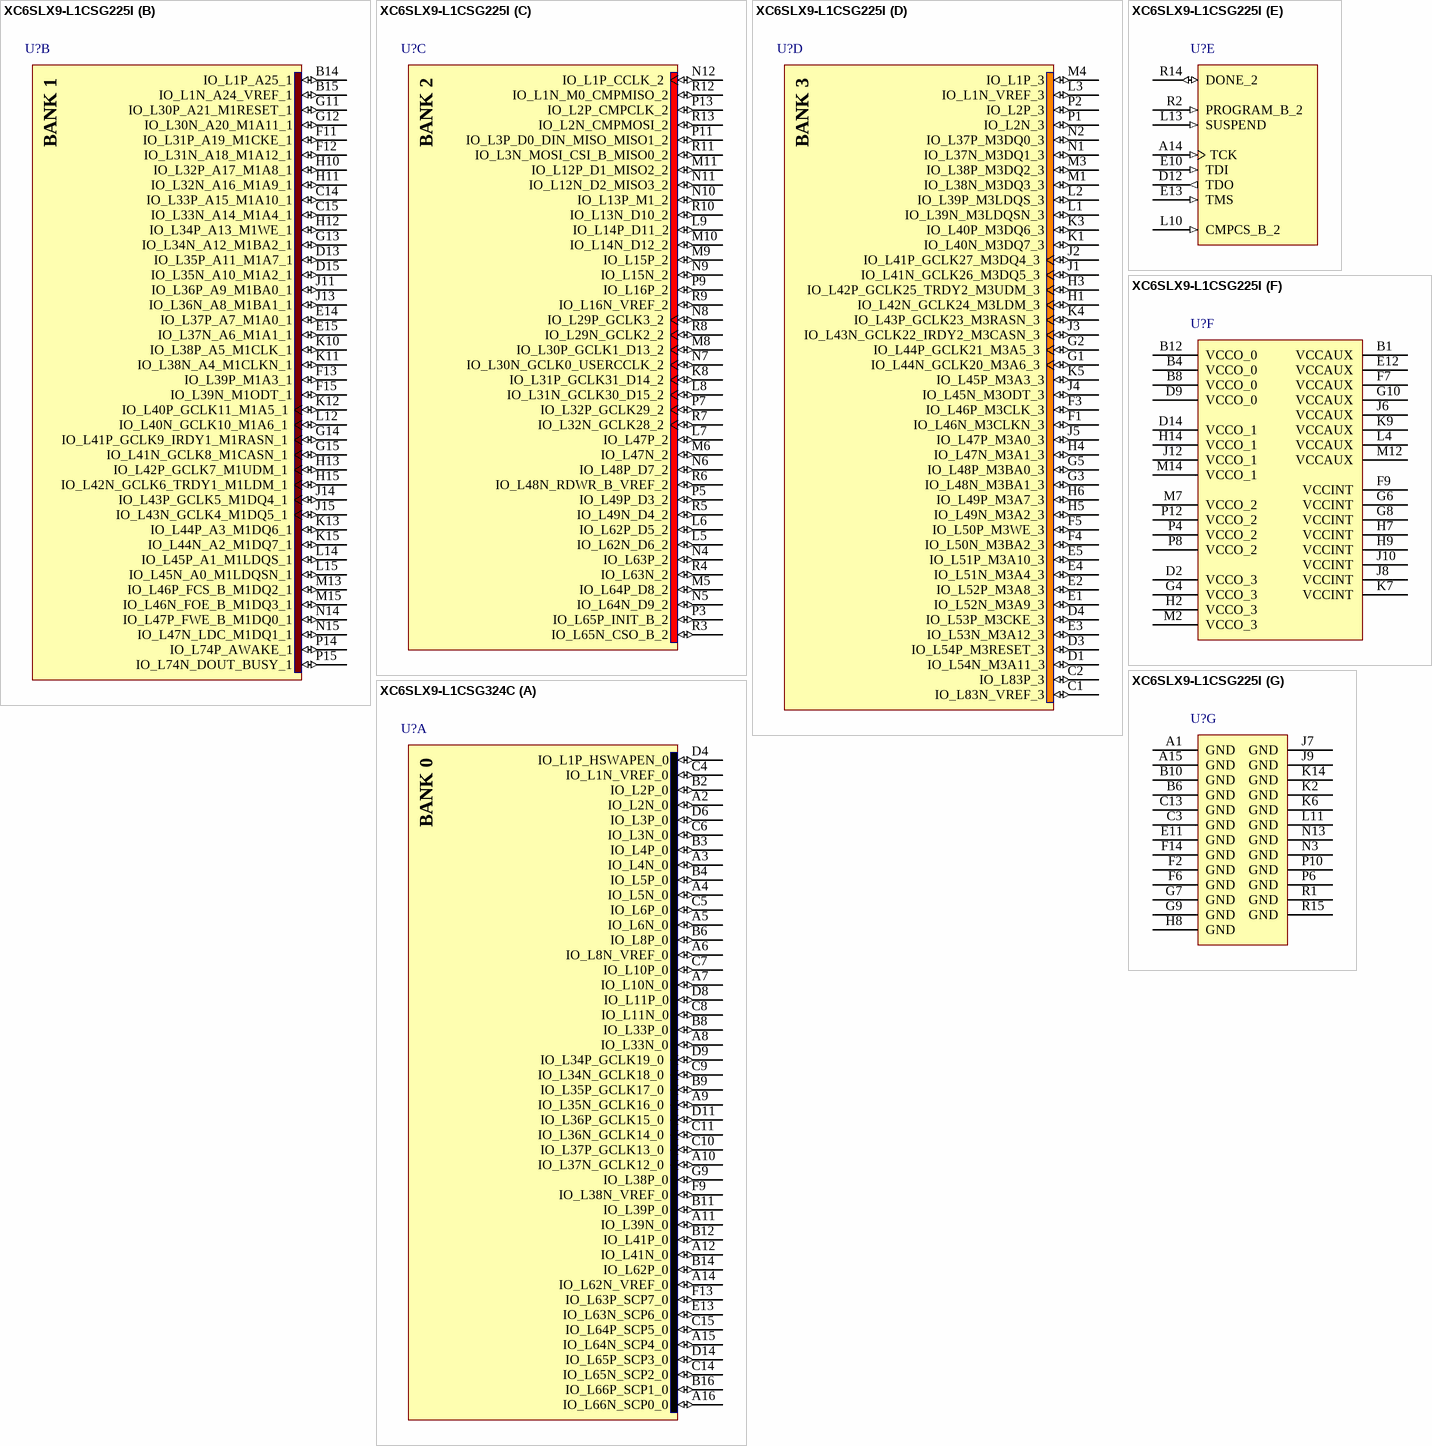
[diagram p6: symbols XC6SLX9-L1CSG225I to XC6SLX9-L1CSG324C]